# Altium schematic symbol library kalios.SchLib: 578 symbols (part 3 of 4)
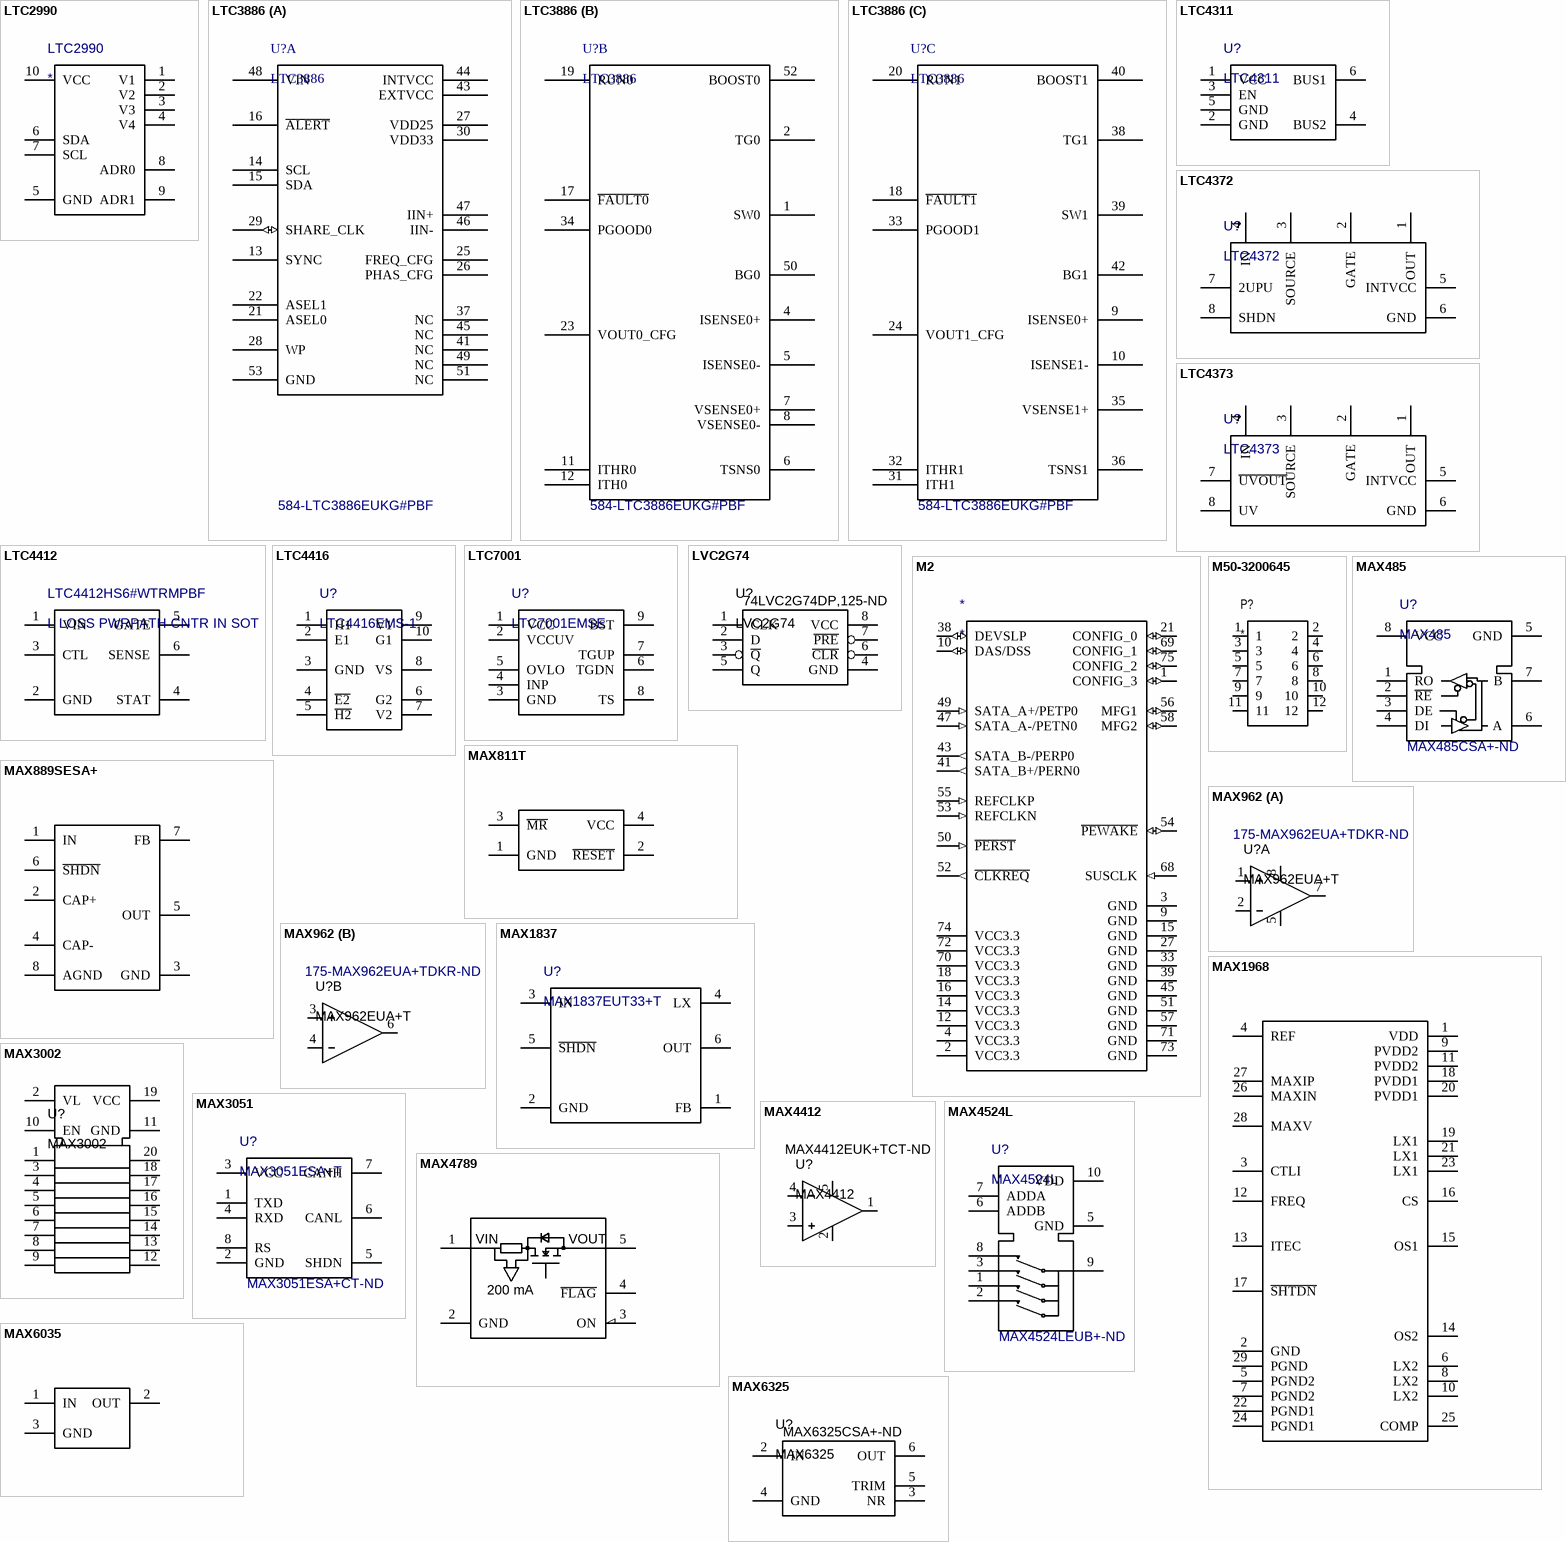
[diagram p26: symbols LTC2990 to MAX6325]

## LTC3886
designator U?  Supplier Part Number 1: 584-LTC3886EUKG#PBF
Supplier 1: Mouser
part A pins: 13 SYNC "External Clock Synchronization Input and  Open-Drain Output Pin. If an external clock is present  at this pin, the switching frequency will be synchronized  to the external clock. If clock master mode is enabled,  this pin will pull low at the switching frequency with a  500ns pulse width to ground. A resistor pull-up to 3.3V  is required in the application.", 14 SCL "Serial Bus Clock Input. Open-drain output,  can hold the output low if clock stretching is enabled.  A pull-up resistor to a voltage between 1.8V to 3.3V is  required in the application.", 15 SDA "Serial Bus Data Input and Output. A pull-up  resistor to a voltage between 1.8V to 3.3V is required in  the application.", 16 ~{ALERT} "Open-Drain Digital Output. Connect the  SMBALERT signal to this pin. A pull-up resistor to 3.3V  is required in the application.", 21 ASEL0 "Serial Bus Address Select  Inputs. Connect optional 1% resistor dividers between  VDD25 and GND to these pins to select the serial bus  interface address. Refer to the Applications Information  section for more detail. Minimize capacitance when the  pin is open to assure accurate detection of the pin state.", 22 ASEL1 "Serial Bus Address Select  Inputs. Connect optional 1% resistor dividers between  VDD25 and GND to these pins to select the serial bus  interface address. Refer to the Applications Information  section for more detail. Minimize capacitance when the  pin is open to assure accurate detection of the pin state.", 25 FREQ_CFG "Frequency Select Pin. Connect a  ±1% resistor divider between the chip VDD25 FREQ_CFG  and GND in order to select switching frequency. If the pin  is left open, the IC will use the value programmed in the  EEPROM. Refer to the Applications Information section  for more detail. Minimize capacitance when the pin is  open to assure accurate detection of the pin state.", 26 PHAS_CFG "Phase Configuration Input. Connect  an optional 1% resistor divider between VDD25 and GND  to this pin to configure the phase of each PWM channel  relative to SYNC. Refer to the Applications Information  section for more detail. Minimize capacitance when the  pin is open to assure accurate detection of the pin state.", 27 VDD25 ": Internally Generated 2.5V Power Supply  Output. Bypass this pin to GND with a low ESR 1μF capacitor. Do not load this pin externally except for the resistor  dividers needed for the LTC3886 resistor con-figuration  pins.", 28 WP "Write Protect Pin Active High. An internal  10µA current source pulls the pin to VDD33. If WP is high,  the PMBus writes are restricted.", 29 SHARE_CLK (io) "Share Clock, Bidirectional OpenDrain Clock Sharing Pin. Nominally 100kHz. Used to synchronize the timing between multiple ADI controllers. Tie  all the SHARE_CLK pins together. All ADI controllers will  synchronize to the fastest clock. A pull-up resistor to 3.3V  is required in the application.", 30 VDD33 "Internally Generated 3.3V Power Supply  Output. Bypass this pin to GND with a low ESR 1μF capacitor. Do not load this pin with external current.", 37 NC, 41 NC, 43 EXTVCC "External power input to an internal LDO  connected to INTVCC. This LDO supplies INTVCC power  bypassing the internal LDO powered from VIN whenever  EXTVCC is higher than 4.7V. See EXTVCC connection in the  Applications Information Section. Do not float or exceed  14V on this pin. Decouple this pin to GND with a minimum  of 4.7μF low ESR tantalum or ceramic capacitor. If the  EXTVCC pin is not used, tie the pin to GND. The EXTVCC  pin may be connected to a higher voltage than the VIN  pin. If the EXTVCC pin is tied to an output of the controller and the external load can pull the output below –0.3V,  a Schottky diode from GND to EXTVCC must be used to  protect the EXTVCC pin.", 44 INTVCC "Internal Regulator 5V Output. The control circuits are powered from this voltage. Decouple this  pin to GND with a minimum of 4.7μF low ESR tantalum  or ceramic capacitor.", 45 NC, 46 IIN- "Negative Input of High Side Current Sense  Amplifier.", 47 IIN+ "Positive Input of High Side Current Sense  Amplifier.", 48 VIN "Main Input Supply. Decouple this pin to GND  with a capacitor (0.1µF to 1µF). For applications where  the main input power is 5V, tie the VIN and INTVCC pins  together. If the input current sense amplifier is not used,  this pin must be shorted to the IIN+ and IIN– pins.", 49 NC, 51 NC, 53 GND "Ground. All small-signal  and compensation components should connect to this  ground, at one point."
part B pins: 1 SW0 "Switch Node Connections to  Inductors. Voltage swings at the pins are from a Schottky  diode (external) voltage drop below ground to VIN.", 2 TG0 "Top Gate Driver Outputs. These are  the outputs of floating drivers with a voltage swing equal  to INTVCC superimposed on the switch node voltages.", 4 ISENSE0+ "Current Sense Comparator  Inputs. The (+) input to the current comparator is normally connected to the DCR sensing network or current  sensing resistor.", 5 ISENSE0- ": Current Sense Comparator  Inputs. The (–) input is connected to the output.", 6 TSNS0 "External Diode Temperature  Sense. Connect to the anode of a diode-connected PNP  transistor in order to sense remote temperature. Directly  connect the cathode using a separate ground return path  to Pin 53 of the LTC3886. A bypass capacitor between  the anode and cathode must be located in close proximity  to the transistor. If external temperature sense elements  are not installed, short pin to ground and set the UT_  FAULT_LIMIT to –275°C and the UT_FAULT_RESPONSE  to ignore.", 7 VSENSE0+ "Positive Output Voltage  Sense Inputs.", 8 VSENSE0- "Channel 0 Negative Output Voltage  Sense Input.", 11 ITHR0 "Loop Compensation Nodes.", 12 ITH0 "Current Control Threshold and  Error Amplifier Compensation Nodes. Each associated  channel’s current comparator tripping threshold increases  with its ITH voltage.", 17 ~{FAULT0} "Digital Programmable  General Purpose Inputs and Outputs. Open-drain output.  A pull-up resistor to a voltage between 1.8V to 3.3V is  required in the application.", 19 RUN0 "Enable Run Input and Output.  Logic high on this pin enables the controller. Open-drain  output holds the pin low until the LTC3886 is out of reset.  This pin should be driven by an open-drain digital output.  A pull-up resistor to a voltage between 1.8V to 3.3V is  required in the application.", 23 VOUT0_CFG "Output Voltage  Select Pins. Connect a ±1% resistor divider between the  chip VDD25, VOUT_CFG and GND in order to select output  voltage. If the pin is left open, the IC will use the value  programmed in the EEPROM. Refer to the Applications  Information section for more detail. Minimize capacitance  when the pin is open to assure accurate detection of the  pin state.", 34 PGOOD0 "Power Good Indicator  Outputs. Open-drain logic output that is pulled to ground  when the output exceeds OV/UV thresholds. The output  is deglitched by an internal 60μs filter. A pull-up resistor  to 3.3V is required in the application.", 50 BG0 ": Bottom Gate Driver Outputs. This  pin drives the gates of the bottom N-channel MOSFET  between GND and INTVCC.", 52 BOOST0 "Boosted Floating Driver  Supplies. The (+) terminal of the bootstrap capacitor connects to this pin. This pin swings from a diode voltage  drop below INTVCC up to VIN + INTVCC."
part C pins: 9 ISENSE0+ "Current Sense Comparator  Inputs. The (+) input to the current comparator is normally connected to the DCR sensing network or current  sensing resistor.", 10 ISENSE1- ": Current Sense Comparator  Inputs. The (–) input is connected to the output.", 18 ~{FAULT1} "Digital Programmable  General Purpose Inputs and Outputs. Open-drain output.  A pull-up resistor to a voltage between 1.8V to 3.3V is  required in the application.", 20 RUN1 "Enable Run Input and Output.  Logic high on this pin enables the controller. Open-drain  output holds the pin low until the LTC3886 is out of reset.  This pin should be driven by an open-drain digital output.  A pull-up resistor to a voltage between 1.8V to 3.3V is  required in the application.", 24 VOUT1_CFG "Output Voltage  Select Pins. Connect a ±1% resistor divider between the  chip VDD25, VOUT_CFG and GND in order to select output  voltage. If the pin is left open, the IC will use the value  programmed in the EEPROM. Refer to the Applications  Information section for more detail. Minimize capacitance  when the pin is open to assure accurate detection of the  pin state.", 31 ITH1 "Current Control Threshold and  Error Amplifier Compensation Nodes. Each associated  channel’s current comparator tripping threshold increases  with its ITH voltage.", 32 ITHR1 "Loop Compensation Nodes.", 33 PGOOD1 "Power Good Indicator  Outputs. Open-drain logic output that is pulled to ground  when the output exceeds OV/UV thresholds. The output  is deglitched by an internal 60μs filter. A pull-up resistor  to 3.3V is required in the application.", 35 VSENSE1+ "Positive Output Voltage  Sense Inputs.", 36 TSNS1 "External Diode Temperature  Sense. Connect to the anode of a diode-connected PNP  transistor in order to sense remote temperature. Directly  connect the cathode using a separate ground return path  to Pin 53 of the LTC3886. A bypass capacitor between  the anode and cathode must be located in close proximity  to the transistor. If external temperature sense elements  are not installed, short pin to ground and set the UT_  FAULT_LIMIT to –275°C and the UT_FAULT_RESPONSE  to ignore.", 38 TG1 "Top Gate Driver Outputs. These are  the outputs of floating drivers with a voltage swing equal  to INTVCC superimposed on the switch node voltages.", 39 SW1 "Switch Node Connections to  Inductors. Voltage swings at the pins are from a Schottky  diode (external) voltage drop below ground to VIN.", 40 BOOST1 "Boosted Floating Driver  Supplies. The (+) terminal of the bootstrap capacitor connects to this pin. This pin swings from a diode voltage  drop below INTVCC up to VIN + INTVCC.", 42 BG1 ": Bottom Gate Driver Outputs. This  pin drives the gates of the bottom N-channel MOSFET  between GND and INTVCC."

## LTC4311
designator U?
The LTC®4311 is a dual I2C active pull-up designed to / enhance data transmission speed and reliability for bus / loading conditions well beyond the 400pF I2C specifi cation / limit. The LTC4311 operates at supply voltages from 1.6V / to 5.5V and is also compatible with SMBus.
footprint SC70-6 (SOT363, 6-Leads, Body 2x1.3mm, Pitch 0.65mm, Lead Span 2.1mm, IPC Low Density)
pins: 1 VCC, 2 GND, 3 EN, 4 BUS2, 5 GND, 6 BUS1

## LTC4372
designator U?
LOW ICC IDEAL DIODE CONTROLLER W; Value: LTC4372
footprint MSOP8 (TSOP, 8-Leads, Body 3.00x3.00mm, Pitch 0.65mm, IPC Medium Density)
pins: 1 OUT, 2 GATE, 3 SOURCE, 4 IN, 5 INTVCC, 6 GND, 7 2UPU, 8 SHDN

## LTC4373
designator U?
LOW ICC IDEAL DIODE CONTROLLER W; Value: LTC4373; Supplier 1: Digi-Key; Supplier Part Number 1: 161-LTC4373IMS8#PBF-ND
footprint MSOP8 (TSOP, 8-Leads, Body 3.00x3.00mm, Pitch 0.65mm, IPC Medium Density)
pins: 1 OUT, 2 GATE, 3 SOURCE, 4 IN, 5 INTVCC, 6 GND, 7 ~{UVOUT}, 8 UV

## LTC4412
designator LTC4412HS6#WTRMPBF, comment L LOSS PWRPATH CNTR IN SOT
OR Controller N+1 ORing Controller P-Channel 2:1 TSOT-23-6
footprint SOT23-6 (IC Package SOT23-6- Body 2.9x1.6x1.45mm)
pins: 1 VIN, 2 GND, 3 CTL, 4 STAT, 5 GATE, 6 SENSE

## LTC4416
designator U?, comment LTC4416EMS-1
IC OR CTRLR SRC SELECT 10MSOP; Supplier 1: Digi-Key; Value: LTC4416EMS-1; Supplier Part Number 1: 505-LTC4416EMS-1#PBF-ND
footprint MSOP10 (TSSOP, 10-Leads, Body 3.00x3.00mm, Pitch 0.50mm, Thermal Pad 1.68.2x1.68.2mm, IPC Medium Density)
pins: 1 H1, 2 E1, 3 GND, 4 ~{E2}, 5 ~{H2}, 6 G2, 7 V2, 8 VS, 9 V1, 10 G1

## LTC7001
designator U?, comment LTC7001EMSE
IC GATE DRVR HIGH-SIDE 10MSOP; Value: LTC7001EMSE; Supplier 1: Digi-Key; Supplier Part Number 1: 505-LTC7001EMSE#TRPBFCT-ND
footprint MSOP10 (TSSOP, 10-Leads, Body 3.00x3.00mm, Pitch 0.50mm, Thermal Pad 1.68.2x1.68.2mm, IPC Medium Density)
pins: 1 VCC, 2 VCCUV, 3 GND, 4 INP, 5 OVLO, 6 TGDN, 7 TGUP, 8 TS, 9 BST

## LVC2G74
designator U?  Supplier Part Number 1: 74LVC2G74DP,125-ND
Supplier 1: Digi-Key
footprint TSSOP8 (Shrink Small Outline; 8 Leads; Body Width 4.4 mm; Pitch 0.65 mm)
pins: 1 CLK, 2 D, 3 ~{Q}, 4 GND, 5 Q, 6 ~{CLR}, 7 ~{PRE}, 8 VCC

## M2
designator *
pins: 1 CONFIG_3 (io), 2 VCC3.3 (power), 3 GND (power), 4 VCC3.3 (power), 9 GND (power), 10 DAS/DSS (io), 12 VCC3.3 (power), 14 VCC3.3 (power), 15 GND (power), 16 VCC3.3 (power), 18 VCC3.3 (power), 21 CONFIG_0 (io), 27 GND (power), 33 GND (power), 38 DEVSLP (io), 39 GND (power), 41 SATA_B+/PERN0 (out), 43 SATA_B-/PERP0 (out), 45 GND (power), 47 SATA_A-/PETN0 (in), 49 SATA_A+/PETP0 (in), 50 ~{PERST} (in), 51 GND (power), 52 ~{CLKREQ} (out), 53 REFCLKN (in), 54 ~{PEWAKE} (io), 55 REFCLKP (in), 56 MFG1 (io), 57 GND (power), 58 MFG2 (io), 68 SUSCLK (in), 69 CONFIG_1 (io), 70 VCC3.3 (power), 71 GND (power), 72 VCC3.3 (power), 73 GND (power), 74 VCC3.3 (power), 75 CONFIG_2 (io)

## M50-3200645
designator P?
M50-3200645
footprint M50-3200645
pins: 1, 2, 3, 4, 5, 6, 7, 8, 9, 10, 11, 12

## MAX485
designator U?  Supplier Part Number 1: MAX485CSA+-ND
IC TRANSCEIVER HALF 1/1 8SOIC; Supplier 1: Digi-Key
footprint SOIC8 (8-Pin Small Outline Integrated Circuit 1.27 mm Pitch, IPC Low Density)
pins: 1 RO, 2 ~{RE}, 3 DE, 4 DI, 5 GND, 6 A, 7 B, 8 VCC

## MAX811T
designator U?  Supplier Part Number 2: MAX811TEUS+TCT-ND
IC MPU V-MONITOR 2.63V SOT143-4; Supplier 1: Digi-Key; Supplier 2: Digi-Key
footprint SOT143-4 (Footprint not found)
pins: 1 GND, 2 ~{RESET}, 3 ~{MR}, 4 VCC

## MAX889SESA+
designator U?, comment MAX889 SESA+
POWER SUPPLY INVERTER; Supplier 1: Digi-Key
footprint SOIC8 (8-Pin Small Outline Integrated Circuit 1.27 mm Pitch, IPC Low Density)
pins: 1 IN, 2 CAP+, 3 GND, 4 CAP-, 5 OUT, 6 ~{SHDN}, 7 FB, 8 AGND

## MAX962
designator U?, comment MAX962EUA+T  Supplier Part Number 1: 175-MAX962EUA+TDKR-ND
Comparator General Purpose CMOS, TTL 8-uMAX/uSOP; Supplier 1: Digi-Key
footprint MSOP8 (TSOP, 8-Leads, Body 3.00x3.00mm, Pitch 0.65mm, IPC Medium Density)
part A pins: 1 IN+, 2 IN-, 5 V-, 7 OUT, 8 V+
part B pins: 3 IN+, 4 IN-, 6 OUT

## MAX1837
designator U?, comment MAX1837EUT33+T
IC REG BUCK 3.3V 250MA SOT23-6
footprint SOT23-6 (SOT23, 6-Leads, Body 3.1x3.2mm (max), Pitch 0.95mm, IPC Medium Density)
pins: 1 FB, 2 GND, 3 IN, 4 LX, 5 ~{SHDN}, 6 OUT

## MAX1968
designator U?, comment MAX1968 EUI
IC DRVR POWER 28-TSSOP; Supplier 1: Digi-Key
footprint TSSOP28 (Footprint not found)
pins: 1 VDD, 2 GND, 3 CTLI, 4 REF, 5 PGND2, 6 LX2, 7 PGND2, 8 LX2, 9 PVDD2, 10 LX2, 11 PVDD2, 12 FREQ, 13 ITEC, 14 OS2, 15 OS1, 16 CS, 17 ~{SHTDN}, 18 PVDD1, 19 LX1, 20 PVDD1, 21 LX1, 22 PGND1, 23 LX1, 24 PGND1, 25 COMP, 26 MAXIN, 27 MAXIP, 28 MAXV, 29 PGND

## MAX3002
designator U?
IC TRANSLATOR LEVEL 8CH 20-TSSOP
footprint TSSOP20 (TSOP, 20-Leads, Body 6.6x4.5mm (max), Pitch 0.65mm, IPC Low Density)
pins: 1, 2 VL, 3, 4, 5, 6, 7, 8, 9, 10 EN, 11 GND, 12, 13, 14, 15, 16, 17, 18, 19 VCC, 20

## MAX3051
designator U?, comment MAX3051ESA+T  Supplier Part Number 1: MAX3051ESA+CT-ND
1/1 Transceiver Half CANbus 8-SOIC; Supplier 1: Digi-Key
footprint SOIC8 (8-Pin Small Outline Integrated Circuit 1.27 mm Pitch, IPC Low Density)
pins: 1 TXD, 2 GND, 3 VCC, 4 RXD, 5 SHDN, 6 CANL, 7 CANH, 8 RS

## MAX4412
designator U?  Supplier Part Number 1: MAX4412EUK+TCT-ND
Supplier 1: Digi-Key
footprint SOT23-5 (SOT23, 5-Leads, Body 3.0x2.6mm (max), Pitch 0.95mm, IPC Low Density)
pins: 1 OUT, 2 V-, 3 IN+, 4 IN-, 5 V+

## MAX4524L
designator U?  Supplier Part Number 1: MAX4524LEUB+-ND
1 Circuit IC Switch 4:1 80Ohm 10-uMAX/uSOP / IC MUX/SW ANLG CMOS LV 10UMAX; Supplier 1: Digi-Key
footprint MSOP10 (TSSOP, 10-Leads, Body 3.00x3.00mm, Pitch 0.50mm, Thermal Pad 1.68.2x1.68.2mm, IPC Medium Density)
pins: 1 NO2, 2 NO3, 3 NO1, 5 GND, 6 ADDB , 7 ADDA, 8 NO0, 9 COM, 10 VDD
1 alternate drawing of the same symbol

## MAX4789
designator U?, comment MAX4789EUK+T
Current Limiting Regulator 200mA SOT-23-5; Supplier 1: Digi-Key
footprint SOIC8 (8-Pin Small Outline Integrated Circuit 1.27 mm Pitch, IPC Low Density)
footprint SOT23-5 (SOT23, 5-Leads, Body 3.0x2.6mm (max), Pitch 0.95mm, IPC Low Density)
pins: 1 VIN, 2 GND, 3 ON, 4 ~{FLAG}, 5 VOUT
text: 200 mA

## MAX6035
designator D?, comment LTST-C170CKT
Led 0805 Red; Supplier 1: Digi-Key
footprint SOT23-3 (SOT23, 3-Leads, Body 3.0x2.6mm (max), Pitch 0.95mm, IPC Low Density)
pins: 1 IN, 2 OUT, 3 GND

## MAX6325
designator U?  Supplier Part Number 1: MAX6325CSA+-ND
Supplier 1: Digi-Key
footprint SOIC8 (8-Pin Small Outline Integrated Circuit 1.27 mm Pitch, IPC Low Density)
pins: 2 IN, 3 NR, 4 GND, 5 TRIM, 6 OUT

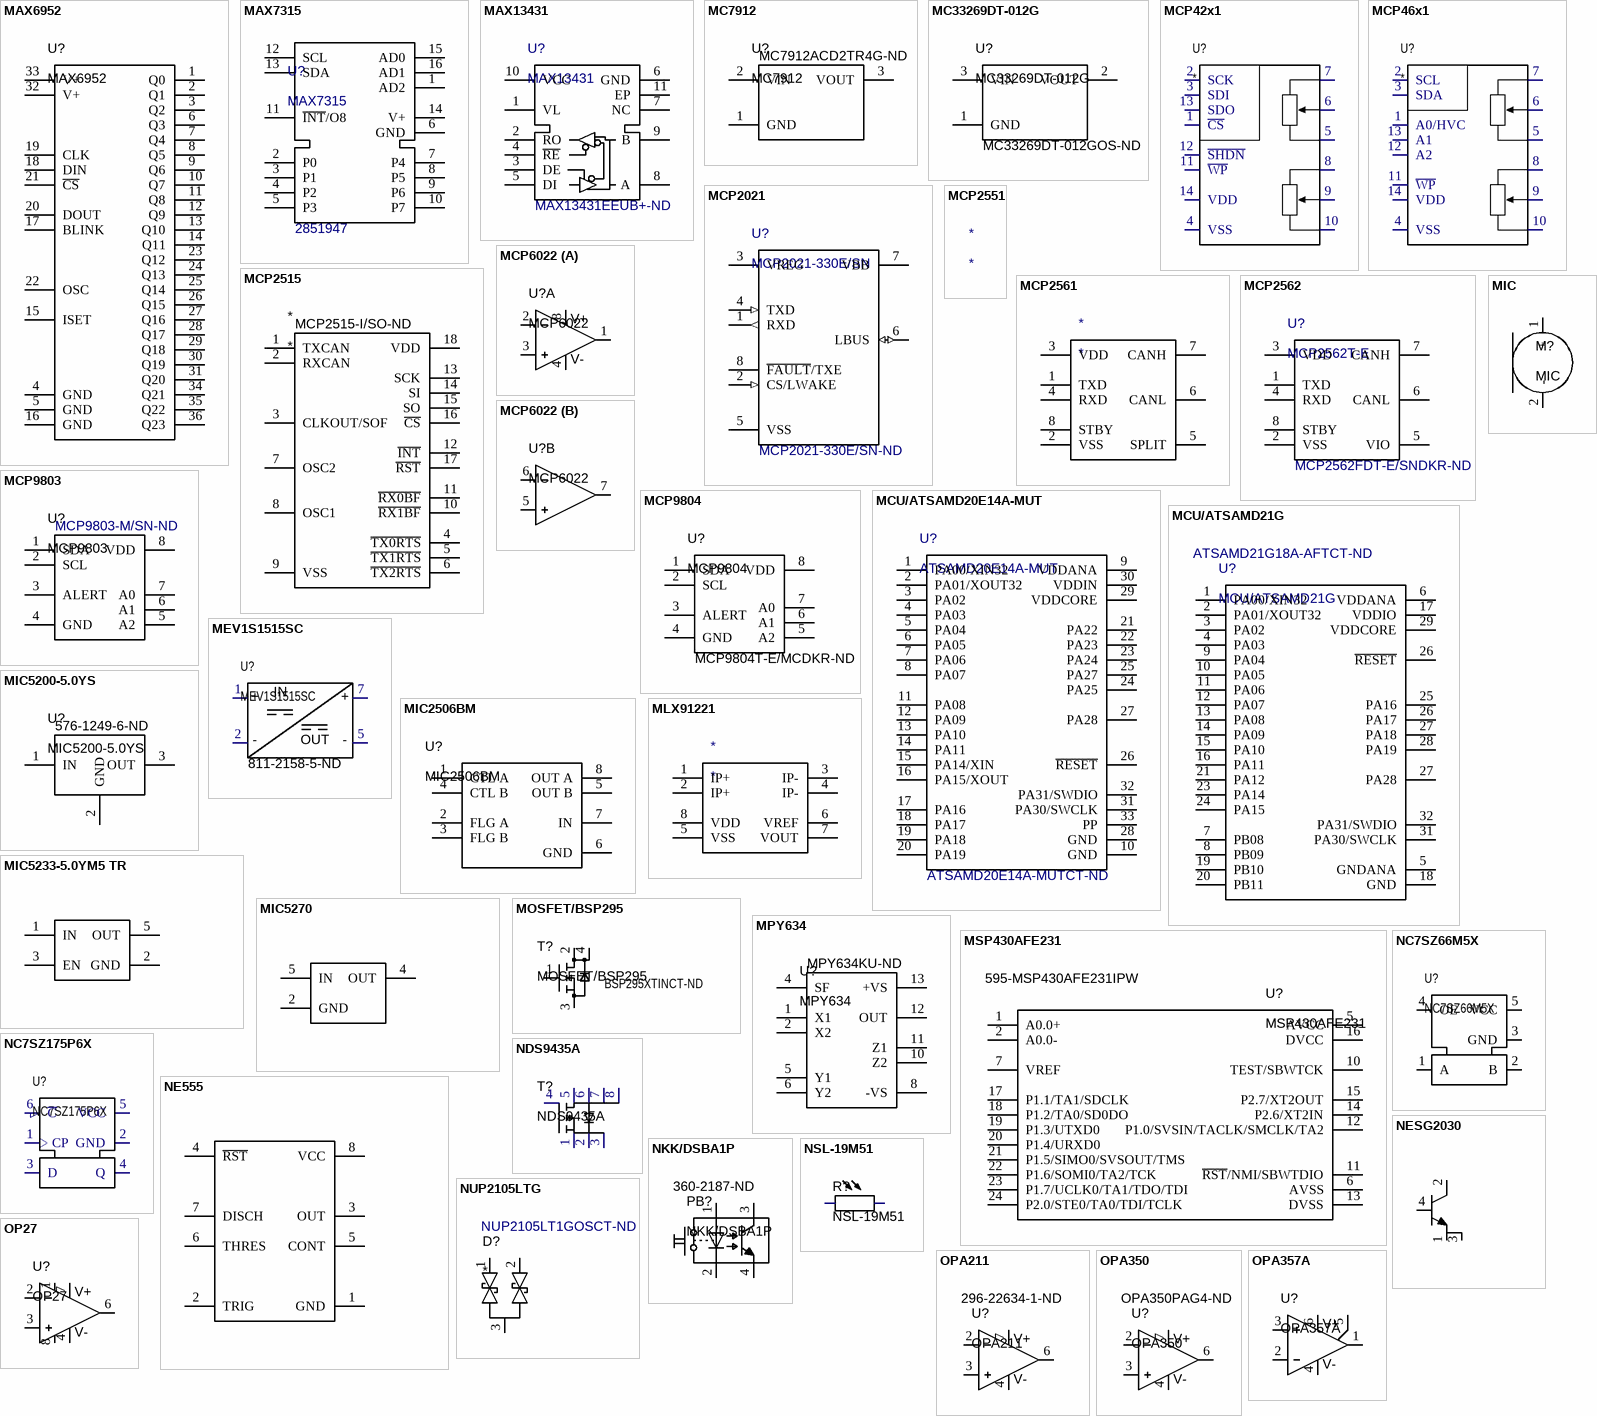
[diagram p14: symbols MAX6952 to OPA357A]

## MAX6952
designator U?
4-Digit 5 ? 7 Matrix LED Display Driver
pins: 1 Q0, 2 Q1, 3 Q2, 4 GND, 5 GND, 6 Q3, 7 Q4, 8 Q5, 9 Q6, 10 Q7, 11 Q8, 12 Q9, 13 Q10, 14 Q11, 15 ISET, 16 GND, 17 BLINK, 18 DIN, 19 CLK, 20 DOUT, 21 ~{CS}, 22 OSC, 23 Q12, 24 Q13, 25 Q14, 26 Q15, 27 Q16, 28 Q17, 29 Q18, 30 Q19, 31 Q20, 32 V+, 33 V+, 34 Q21, 35 Q22, 36 Q23

## MAX7315
designator U?  Supplier Part Number 1: 2851947
IC I/O EXPANDER I2C 8B 16TSSOP; Supplier 1: Future Electronics
footprint SOP65P640X110-16N
pins: 1 AD2, 2 P0 (oc), 3 P1 (oc), 4 P2 (oc), 5 P3 (oc), 6 GND (power), 7 P4 (oc), 8 P5 (oc), 9 P6 (oc), 10 P7 (oc), 11 ~{INT}/O8, 12 SCL, 13 SDA, 14 V+ (power), 15 AD0, 16 AD1

## MAX13431
designator U?  Supplier Part Number 1: MAX13431EEUB+-ND
1/1 Transceiver Half RS422, RS485 10-TDFN (3x3); Supplier 1: Digi-Key
footprint DFN10_3x3MC_MCH-M
pins: 1 VL, 2 RO, 3 DE, 4 ~{RE}, 5 DI, 6 GND, 7 NC, 8 A, 9 B, 10 VCC, 11 EP

## MC7912
designator U?  Supplier Part Number 1: MC7912ACD2TR4G-ND
Supplier 1: Digi-Key
footprint D2PAK-3 HEATSINK (D2-PAK, 3-Pads, Body 9.6x9.6mm (max), IPC Medium Density)
pins: 1 GND, 2 VIN, 3 VOUT

## MC33269DT-012G
designator U?  Supplier Part Number 1: MC33269DT-012GOS-ND
IC REG LDO 12V 0.8A DPAK; Supplier 1: Digi-Key
footprint DPAK (D-PAK, 3-Pads, Body 6.20x6.72mm (max), IPC Medium Density)
pins: 1 GND, 2 VOUT, 3 VIN

## MCP42x1
designator U?
Value: *
pins: 1 ~{CS}, 2 SCK, 3 SDI, 4 VSS, 5 B1, 6 W1, 7 A1, 8 A2, 9 W2, 10 B2, 11 ~{WP}, 12 ~{SHDN}, 13 SDO, 14 VDD

## MCP46x1
designator U?
7/8-Bit Dual I2C Digital POT with Non-Volatile Memory; Value: *
pins: 1 A0/HVC, 2 SCL, 3 SDA, 4 VSS, 5 B1, 6 W1, 7 A1, 8 A2, 9 W2, 10 B2, 11 ~{WP}, 12 A2, 13 A1, 14 VDD

## MCP2021
designator U?, comment MCP2021-330E/SN  Supplier Part Number 1: MCP2021-330E/SN-ND
Supplier 1: Digi-Key
footprint SOIC8 (8-Pin Small Outline Integrated Circuit 1.27 mm Pitch, IPC Low Density)
pins: 1 RXD (out), 2 CS/LWAKE (in), 3 VREG (power), 4 TXD (in), 5 VSS, 6 LBUS (io), 7 VBB (power), 8 ~{FAULT}/TXE

## MCP2515
designator *  Supplier Part Number 1: MCP2515-I/SO-ND
Supplier 1: Digi-Key
pins: 1 TXCAN, 2 RXCAN, 3 CLKOUT/SOF, 4 ~{TX0RTS}, 5 ~{TX1RTS}, 6 ~{TX2RTS}, 7 OSC2, 8 OSC1, 9 VSS, 10 ~{RX1BF}, 11 ~{RX0BF}, 12 ~{INT}, 13 SCK, 14 SI, 15 SO, 16 ~{CS}, 17 ~{RST}, 18 VDD

## MCP2551
designator *

## MCP2561
designator *
pins: 1 TXD, 2 VSS, 3 VDD, 4 RXD, 5 SPLIT, 6 CANL, 7 CANH, 8 STBY

## MCP2562
designator U?, comment MCP2562T-E  Supplier Part Number 1: MCP2562FDT-E/SNDKR-ND
IC TRANSCEIVER HALF 1/1 8SOIC; Supplier 1: Digi-Key
footprint SOIC8 (8-Pin Small Outline Integrated Circuit 1.27 mm Pitch, IPC Low Density)
pins: 1 TXD, 2 VSS, 3 VDD, 4 RXD, 5 VIO, 6 CANL, 7 CANH, 8 STBY

## MCP6022
designator U?
Rail-to-Rail Input/Output, 10 MHz Op Amps
part A pins: 1 OUT, 2 IN-, 3 IN+, 4 V-, 8 V+
part B pins: 5 IN+, 6 IN-, 7 OUT

## MCP9803
designator U?  Supplier Part Number 1: MCP9803-M/SN-ND
Temperature sensor I2c; Supplier 1: Digi-Key
footprint DFN2x3 8-Pin
pins: 1 SDA, 2 SCL, 3 ALERT, 4 GND, 5 A2, 6 A1, 7 A0, 8 VDD

## MCP9804
designator U?  Supplier Part Number 1: MCP9804T-E/MCDKR-ND
Temperature sensor I2c; Supplier 1: Digi-Key
footprint DFN2x3 8-Pin
pins: 1 SDA, 2 SCL, 3 ALERT, 4 GND, 5 A2, 6 A1, 7 A0, 8 VDD

## MCU/ATSAMD20E14A-MUT
designator U?, comment ATSAMD20E14A-MUT  Supplier Part Number 1: ATSAMD20E14A-MUTCT-ND
ARM® Cortex®-M0+ SAM D20E Microcontroller IC 32-Bit 48MHz 16KB (16K x 8) FLASH 32-QFN (5x5); Supplier 1: Digi-Key
footprint QFN32_5X5MC_MCH
pins: 1 PA00/XIN32, 2 PA01/XOUT32, 3 PA02, 4 PA03, 5 PA04, 6 PA05, 7 PA06, 8 PA07, 9 VDDANA, 10 GND, 11 PA08, 12 PA09, 13 PA10, 14 PA11, 15 PA14/XIN, 16 PA15/XOUT, 17 PA16, 18 PA17, 19 PA18, 20 PA19, 21 PA22, 22 PA23, 23 PA24, 24 PA25, 25 PA27, 26 ~{RESET}, 27 PA28, 28 GND, 29 VDDCORE, 30 VDDIN, 31 PA30/SWCLK, 32 PA31/SWDIO, 33 PP

## MCU/ATSAMD21G
designator U?  Supplier Part Number 1: ATSAMD21G18A-AFTCT-ND
IC MCU 32BIT 256KB FLASH 48TQFP; Supplier 1: Digi-Key
pins: 1 PA00/XIN32, 2 PA01/XOUT32, 3 PA02, 4 PA03, 5 GNDANA, 6 VDDANA, 7 PB08, 8 PB09, 9 PA04, 10 PA05, 11 PA06, 12 PA07, 13 PA08, 14 PA09, 15 PA10, 16 PA11, 17 VDDIO, 18 GND, 19 PB10, 20 PB11, 21 PA12, 23 PA14, 24 PA15, 25 PA16, 26 PA17, 26 ~{RESET}, 27 PA18, 27 PA28, 28 PA19, 29 VDDCORE, 31 PA30/SWCLK, 32 PA31/SWDIO

## MEV1S1515SC
designator U?  Supplier Part Number 1: 811-2158-5-ND
3kVDC Isolated 1W Single Output DC/DC Converters; Supplier 1: Digi-Key; Supplier 2: Farnell
footprint MEV1/SIP
pins: 1 +VIN, 2 -VIN, 5 -VOUT, 7 +VOUT
text: IN; +; -; OUT

## MIC
designator M?
pins: 1 +, 2 -

## MIC2506BM
designator U?
pins: 1 CTL A, 2 FLG A, 3 FLG B, 4 CTL B, 5 OUT B, 6 GND, 7 IN, 8 OUT A

## MIC5200-5.0YS
designator U?  Supplier Part Number 1: 576-1249-6-ND
Supplier 1: Digi-Key; Supplier 2: Farnell; Supplier Part Number 2: 1311413
footprint SOT-223 (SOT-223/SC-73; 4 Leads; Body 6.7 x 7.3 mm, inc. leads (LxW max))
pins: 1 IN, 2 GND, 3 OUT

## MIC5233-5.0YM5 TR
designator U?  Supplier Part Number 2: 576-2779-2-ND
IC REG LDO 5V .1A SOT23-5; Supplier 1: Digi-Key; Supplier 2: Digi-Key
footprint SOT23-5 (SOT23, 5-Leads, Body 3.0x2.6mm (max), Pitch 0.95mm, IPC Low Density)
pins: 1 IN, 2 GND, 3 EN, 5 OUT

## MIC5270
designator U?  Supplier Part Number 2: 576-1294-2-ND
IC REG LDO -5V .1A SOT23-5; Supplier 1: Digi-Key; Supplier 2: Digi-Key
footprint SOT23-5 (SOT23, 5-Leads, Body 3.0x2.6mm (max), Pitch 0.95mm, IPC Low Density)
pins: 2 GND, 4 OUT, 5 IN

## MLX91221
designator *
pins: 1 IP+, 2 IP+, 3 IP-, 4 IP-, 5 VSS, 6 VREF, 7 VOUT, 8 VDD

## MOSFET/BSP295
designator T?  Supplier Part Number 1: BSP295XTINCT-ND
N.channel TrenchMOS FET  Logic level; Supplier 1: Digi-Key
footprint SOT223-4 (SOT223, 4-Leads, Body 6.7x7.3mm (max), Pitch 2.30mm, IPC Medium Density)
pins: 1 VCC, 2 D, 3 S, 4 D

## MPY634
designator U?  Supplier Part Number 1: MPY634KU-ND
Supplier 1: Digi-Key
footprint SOIC16 (SOIC, 16-Leads, Body 10.0x4.0mm (max), Pitch 1.27mm, IPC Low Density)
pins: 1 X1, 2 X2, 4 SF, 5 Y1, 6 Y2, 8 -VS, 10 Z2, 11 Z1, 12 OUT, 13 +VS

## MSP430AFE231
designator U?  Supplier Part Number 1: 595-MSP430AFE231IPW
Supplier 1: Mouser
pins: 1 A0.0+, 2 A0.0-, 5 AVCC, 6 AVSS, 7 VREF, 10 TEST/SBWTCK, 11 ~{RST}/NMI/SBWTDIO, 12 P1.0/SVSIN/TACLK/SMCLK/TA2, 13 DVSS, 14 P2.6/XT2IN, 15 P2.7/XT2OUT, 16 DVCC, 17 P1.1/TA1/SDCLK, 18 P1.2/TA0/SD0DO, 19 P1.3/UTXD0, 20 P1.4/URXD0, 21 P1.5/SIMO0/SVSOUT/TMS, 22 P1.6/SOMI0/TA2/TCK, 23 P1.7/UCLK0/TA1/TDO/TDI, 24 P2.0/STE0/TA0/TDI/TCLK

## NC7SZ66M5X
designator U?
D-Type Flip-Flop with Asychronous Clear
footprint SC70-6 (SOT363, 6-Leads, Body 2x1.3mm, Pitch 0.65mm, Lead Span 2.1mm, IPC Low Density)
pins: 1 A, 2 B, 3 GND, 4 OE, 5 VCC
1 alternate drawing of the same symbol

## NC7SZ175P6X
designator U?
D-Type Flip-Flop with Asychronous Clear; Supplier 1: Digi-Key; Supplier 2: Farnell; Supplier Part Number 1: NC7SZ175P6XDKR-ND; Supplier Part Number 2: 9876456
footprint SC70-6 (SOT363, 6-Leads, Body 2x1.3mm, Pitch 0.65mm, Lead Span 2.1mm, IPC Low Density)
pins: 1 CP, 2 GND, 3 D, 4 Q, 5 VCC, 6 ~{C}
1 alternate drawing of the same symbol

## NDS9435A
designator T?
MOSFET P NDS9435A
footprint SOIC8 (8-Pin Small Outline Integrated Circuit 1.27 mm Pitch, IPC Low Density)
pins: 1 S, 2 S, 3 S, 4 G, 5 D, 6 D, 7 D, 8 D

## NE555
designator U?, comment IC OSC MONO TIMING 8-SOIC
Led 0805 Red; Supplier 1: Digi-Key
footprint SOIC8 (8-Pin Small Outline Integrated Circuit 1.27 mm Pitch, IPC Low Density)
pins: 1 GND, 2 TRIG, 3 OUT, 4 ~{RST}, 5 CONT, 6 THRES, 7 DISCH, 8 VCC

## NESG2030
designator T?
TRANS NPN 2GHZ SOT-343
footprint SOT343F (SOT23, 5-Leads, Body 3.0x2.6mm (max), Pitch 0.95mm, IPC Low Density)
pins: 1 E, 2 C, 3 E, 4 B

## NKK/DSBA1P
designator PB?  Supplier Part Number 1: 360-2187-ND
Supplier 1: Digi-Key
footprint NKK/DSBA1P (Footprint not found)
pins: 1, 2, 3 C, 4 E

## NSL-19M51
designator R?
SILONEX; Supplier 1: Farnell; Supplier Part Number 1: 3168335
footprint SILONEX NSL19M51
pins: 1, 2

## NUP2105LTG
designator D?  Supplier Part Number 1: NUP2105LT1GOSCT-ND
Supplier 1: Digi-Key
footprint SOT23-3 (SOT23, 3-Leads, Body 3.0x2.6mm (max), Pitch 0.95mm, IPC Low Density)
pins: 1, 2 21, 3

## OP27
designator U?
Low Noise, Precision  Operational Amplifier; Supplier 1: Digi-Key; Supplier Part Number 1: OP275GSZ-REEL7DKR-ND
footprint SOIC8 (8-Pin Small Outline Integrated Circuit 1.27 mm Pitch, IPC Low Density)
pins: 1 VOS TRIM, 2 IN-, 3 IN+, 4 V-, 6 OUT, 7 V+, 8 VOS TRIM

## OPA211
designator U?  Supplier Part Number 1: 296-22634-1-ND
4.5ns Rail-to-Rail, High-Speed Comparator; Supplier 1: Digi-Key
footprint SOIC8 (8-Pin Small Outline Integrated Circuit 1.27 mm Pitch, IPC Low Density)
pins: 2 IN-, 3 IN+, 4 V-, 6 OUT, 7 V+

## OPA350
designator U?  Supplier Part Number 1: OPA350PAG4-ND
IC OPAMP GP R-R 38MHZ SGL 8DIP; Supplier 1: Digi-Key
footprint DIP8 (Footprint not found)
pins: 2 IN-, 3 IN+, 4 V-, 6 OUT, 7 V+

## OPA357A
designator U?
Voltage Feedback Amplifier 1 Circuit Rail-to-Rail SOT-23-6; SR: 150 V/us; Supplier 1: Digi-Key; Parameter 1: *; Supplier Part Number 1: 296-13009-1-ND
footprint SOT23-6 (SOT23, 6-Leads, Body 3.1x3.2mm (max), Pitch 0.95mm, IPC Medium Density)
pins: 1 OUT, 2 IN-, 3 IN+, 4 V-, 5 EN, 6 V+
1 alternate drawing of the same symbol

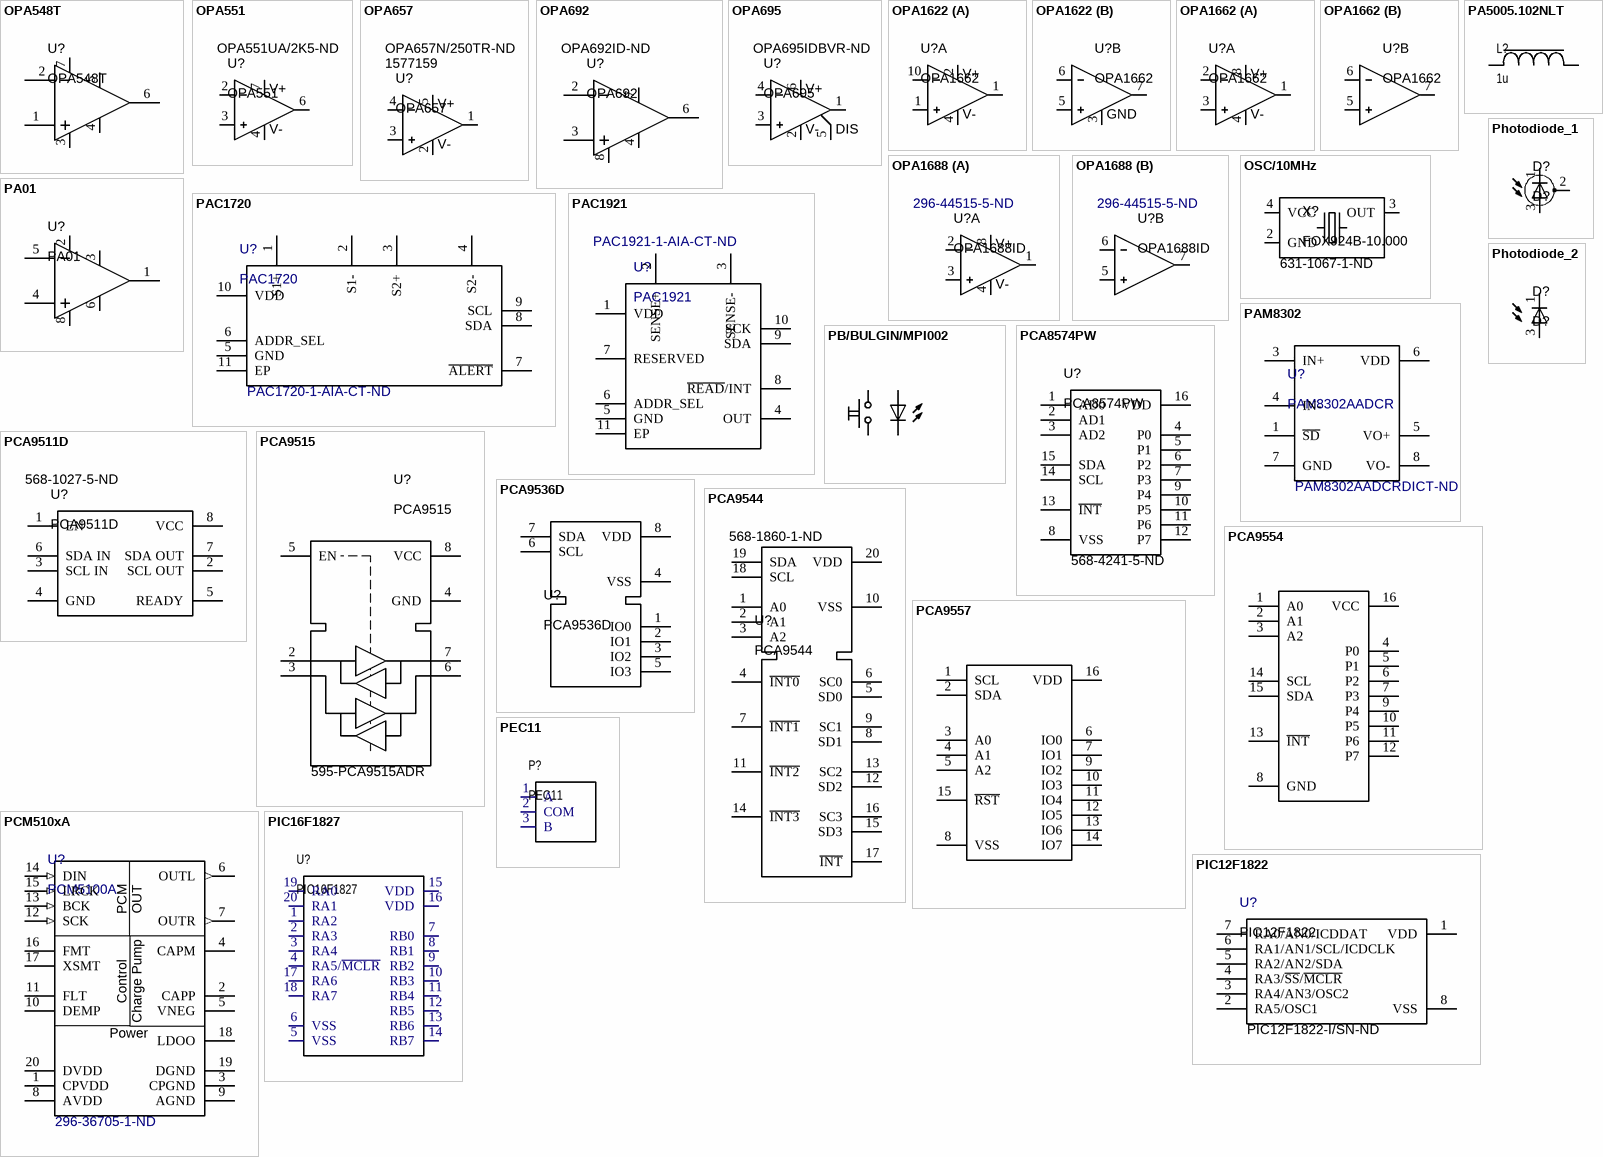
[diagram p15: symbols OPA548T to PIC16F1827]

## OPA548T
designator U?
pins: 1 IN+, 2 IN-, 3 Ilim, 4 V-, 5 V+, 6 OUT, 7 E/S

## OPA551
designator U?  Supplier Part Number 1: OPA551UA/2K5-ND
4.5ns Rail-to-Rail, High-Speed Comparator; Supplier 1: Digi-Key
footprint SOIC8 (8-Pin Small Outline Integrated Circuit 1.27 mm Pitch, IPC Low Density)
pins: 2 IN-, 3 IN+, 4 V-, 6 OUT, 7 V+

## OPA657
designator U?  Supplier Part Number 1: 1577159  Supplier Part Number 2: OPA657N/250TR-ND
Single low-power operational amplifier; Supplier 1: Farnell; Supplier 2: Digi-Key
footprint DBV005 (SOT-23/SC-74A; 5 Leads; Body 3 x 3 mm, inc. leads (LxW max))
pins: 1 OUT, 2 V-, 3 IN+, 4 IN-, 5 V+
1 alternate drawing of the same symbol

## OPA692
designator U?  Supplier Part Number 1: OPA692ID-ND
Wideband Fixed Gain Video BUFFER AMPLIFIER With Disable; Supplier 1: Digi-Key
footprint SOIC8 (8-Pin Small Outline Integrated Circuit 1.27 mm Pitch, IPC Low Density)
pins: 2 IN-, 3 IN+, 4 V-, 6 OUT, 7 V+, 8 ~{DI}S

## OPA695
designator U?  Supplier Part Number 1: OPA695IDBVR-ND
Single low-power operational amplifier; Supplier 1: Digi-Key
footprint SOT23-6 (SOT23, 6-Leads, Body 3.1x3.2mm (max), Pitch 0.95mm, IPC Medium Density)
pins: 1 OUT, 2 V-, 3 IN+, 4 IN-, 5 DIS, 6 V+
1 alternate drawing of the same symbol

## OPA1622
designator U?, comment OPA1662
Dual operational amplifier
part A pins: 1 IN+, 1 OUT, 2 EN, 4 GND, 10 IN-
part B pins: 3 GND, 5 IN+, 6 IN-, 7 OUT
part A text: V+; V-

## OPA1662
designator U?
Dual operational amplifier
footprint SOIC8 (8-Pin Small Outline Integrated Circuit 1.27 mm Pitch, IPC Low Density)
part A pins: 1 OUT, 2 IN-, 3 IN+, 4 V-, 8 V+
part B pins: 5 IN+, 6 IN-, 7 OUT

## OPA1688
designator U?, comment OPA1688ID  Supplier Part Number 1: 296-44515-5-ND
Dual operational amplifier; Supplier 1: Digi-Key
footprint SOIC8 (8-Pin Small Outline Integrated Circuit 1.27 mm Pitch, IPC Low Density)
part A pins: 1 OUT, 2 IN-, 3 IN+, 4 V-, 8 V+
part B pins: 5 IN+, 6 IN-, 7 OUT

## OSC/10MHz
designator X?, comment FOX924B-10.000  Supplier Part Number 1: 631-1067-1-ND
OSCILLATOR TCXO 10.0MHZ 3.3V SMD; Supplier 1: Digi-Key
footprint OSC/FOX924B
pins: 2 GND, 3 OUT, 4 VCC

## PA01
designator U?
Apex Power Operational Amplifier PA01
pins: 1 OUT, 2 CL+, 3 V+, 4 IN+, 5 IN-, 6 V-, 8 CL-

## PA5005.102NLT
designator L?, comment 1u
1 µH Shielded Molded Inductor 20 A 4.52mOhm Max Nonstandard; Isat: 23A; Value: 1u; Supplier 1: Digi-Key; Supplier Part Number 1: 553-4098-1-ND
pins: 1, 2

## PAC1720
designator U?  Supplier Part Number 1: PAC1720-1-AIA-CT-ND
Stromüberwachung Regler Hohe Seite  10-DFN (3x3); Supplier 1: Digi-Key
footprint DFN10_3x3MC_MCH-M
pins: 1 S1+, 2 S1-, 3 S2+, 4 S2-, 5 GND, 6 ADDR_SEL, 7 ~{ALERT}, 8 SDA, 9 SCL, 10 VDD, 11 EP

## PAC1921
designator U?  Supplier Part Number 1: PAC1921-1-AIA-CT-ND
Supplier 1: Digi-Key
footprint DFN10_3x3MC_MCH-M
pins: 1 VDD, 2 SENSE+, 3 SENSE-, 4 OUT, 5 GND, 6 ADDR_SEL, 7 RESERVED, 8 ~{READ}/INT, 9 SDA, 10 SCK, 11 EP

## PAM8302
designator U?, comment PAM8302AADCR  Supplier Part Number 1: PAM8302AADCRDICT-ND
IC AMP CLASS D MONO 2.5W 8SOP; Supplier 1: Digi-Key
footprint SOIC8 (8-Pin Small Outline Integrated Circuit 1.27 mm Pitch, IPC Low Density)
pins: 1 ~{SD}, 3 IN+, 4 IN-, 5 VO+, 6 VDD, 7 GND, 8 VO-

## PB/BULGIN/MPI002
designator PB?, comment PI002
Supplier 1: Digi-Key
footprint PB/BULGIN/MPI002
pins: 1, 2, 3, 4

## PCA8574PW
designator U?  Supplier Part Number 1: 568-4241-5-ND
Supplier 1: Digi-Key
footprint PW016 (Shrink Small Outline; 16 Leads; Body Width 4.4 mm; Pitch 0.65 mm)
pins: 1 AD0, 2 AD1, 3 AD2, 4 P0, 5 P1, 6 P2, 7 P3, 8 VSS, 9 P4, 10 P5, 11 P6, 12 P7, 13 ~{INT}, 14 SCL, 15 SDA, 16 VDD

## PCA9511D
designator U?  Supplier Part Number 1: 568-1027-5-ND
Supplier 1: Digi-Key
footprint TSSOP8 (Shrink Small Outline; 8 Leads; Body Width 4.4 mm; Pitch 0.65 mm)
pins: 1 EN, 2 SCL OUT, 3 SCL IN, 4 GND, 5 READY, 6 SDA IN, 7 SDA OUT, 8 VCC

## PCA9515
designator U?  Supplier Part Number 1: 595-PCA9515ADR
Supplier 1: Mouser
footprint SOIC8 (8-Pin Small Outline Integrated Circuit 1.27 mm Pitch, IPC Low Density)
pins: 2 SCL0, 3 SDA0, 4 GND, 5 EN, 6 SDA1, 7 SCL1, 8 VCC

## PCA9536D
designator U?
IC I/O EXPANDER I2C 4B 8SOIC
footprint SOIC8 (8-Pin Small Outline Integrated Circuit 1.27 mm Pitch, IPC Low Density)
pins: 1 IO0, 2 IO1, 3 IO2, 4 VSS, 5 IO3, 6 SCL, 7 SDA, 8 VDD

## PCA9544
designator U?  Supplier Part Number 1: 568-1860-1-ND
IC I2C MUX 4CH 20-TSSOP; Supplier 1: Digi-Key
footprint SOIC20 (SOIC, 20-Leads, Body 13.0x7.6mm (max), Pitch 1.27mm, IPC Low Density)
pins: 1 A0, 2 A1, 3 A2, 4 ~{INT0}, 5 SD0, 6 SC0, 7 ~{INT1}, 8 SD1, 9 SC1, 10 VSS, 11 ~{INT2}, 12 SD2, 13 SC2, 14 ~{INT3}, 15 SD3, 16 SC3, 17 ~{INT}, 18 SCL, 19 SDA, 20 VDD

## PCA9554
designator U?
IC I/O EXPANDER I2C 8B 16SOIC; Supplier 1: Digi-Key
footprint SOIC16 (SOIC, 16-Leads, Body 10.0x4.0mm (max), Pitch 1.27mm, IPC Low Density)
pins: 1 A0, 2 A1, 3 A2, 4 P0, 5 P1, 6 P2, 7 P3, 8 GND, 9 P4, 10 P5, 11 P6, 12 P7, 13 ~{INT}, 14 SCL, 15 SDA, 16 VCC

## PCA9557
designator U?
Supplier 1: Digi-Key
footprint TSSOP16 (Shrink Small Outline; 16 Leads; Body Width 4.4 mm; Pitch 0.65 mm)
pins: 1 SCL, 2 SDA, 3 A0, 4 A1, 5 A2, 6 IO0, 7 IO1, 8 VSS, 9 IO2, 10 IO3, 11 IO4, 12 IO5, 13 IO6, 14 IO7, 15 ~{RST}, 16 VDD

## PCM510xA
designator U?, comment PCM5100A  Supplier Part Number 1: 296-36705-1-ND
112/106/100 dB Audio Stereo DAC / with PLL and 32-bit, 384 kHz PCM Interface; Supplier 1: Digi-Key
footprint SOP65P640X120-20N
pins: 1 CPVDD (power), 2 CAPP, 3 CPGND, 4 CAPM, 5 VNEG, 6 OUTL (out), 7 OUTR (out), 8 AVDD (power), 9 AGND, 10 DEMP, 11 FLT, 12 SCK (in), 13 BCK (in), 14 DIN (in), 15 LRCK (in), 16 FMT, 17 XSMT, 18 LDOO (power), 19 DGND (power), 20 DVDD (power)
text: PCM; OUT; Control; Charge Pump; Power

## PEC11
designator P?
pins: 1 A, 2 COM, 3 B

## Photodiode_1
designator D?, comment D?
Hamamatsu
pins: 1, 2, 3

## Photodiode_2
designator D?, comment D?
Hamamatsu
pins: 1, 3

## PIC12F1822
designator U?  Supplier Part Number 1: PIC12F1822-I/SN-ND
Supplier 1: Digi-Key
pins: 1 VDD, 2 RA5/OSC1, 3 RA4/AN3/OSC2, 4 RA3/~{SS}/~{MCLR}, 5 RA2/AN2/SDA, 6 RA1/AN1/SCL/ICDCLK, 7 RA0/AN0/ICDDAT, 8 VSS

## PIC16F1827
designator U?
pins: 1 RA2, 2 RA3, 3 RA4, 4 RA5/~{MCLR}, 5 VSS, 6 VSS, 7 RB0, 8 RB1, 9 RB2, 10 RB3, 11 RB4, 12 RB5, 13 RB6, 14 RB7, 15 VDD, 16 VDD, 17 RA6, 18 RA7, 19 RA0, 20 RA1

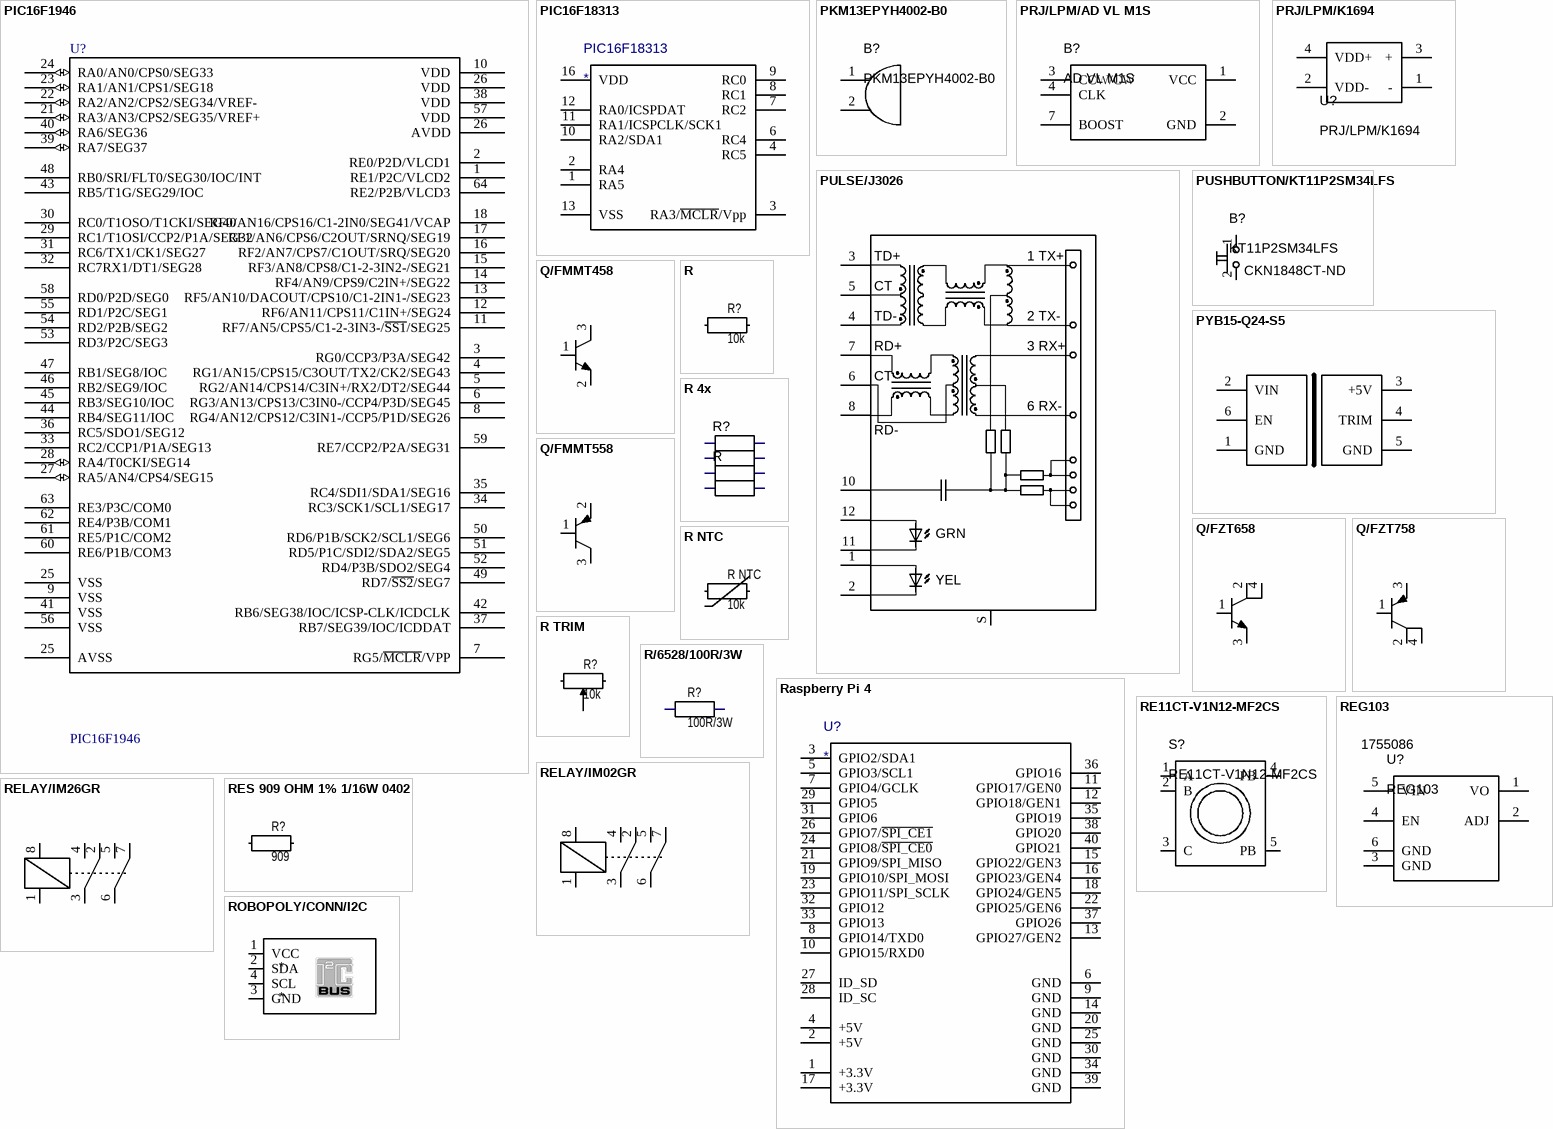
[diagram p16: symbols PIC16F1946 to ROBOPOLY/CONN/I2C]

## PIC16F1946
designator U?
Flash-Based, 8-Bit CMOS Microcontroller with LCD Driver and nanoWatt Technology, 8K (x14-Bit words) Program Memory, 592 Bytes Data Memory, 53 I/O pins, 64-Pin TQFP, Standard VDD Range, Industrial Temperature; Published: 29-Jan-2009; DatasheetVersion: revF, May-2007; PackageVersion: revAW, Oct-2008; PackageReference: TQFP-PT64; Publisher: Altium Limited; PackageDescription: 64-Lead Thin Plastic Quad Flat Pack (PT) - 10x10x1mm Body, 2.00mm [TQFP]; Code_JEDEC: MS-026; ComponentLink1Description: Manufacturer Link; ComponentLink1URL: http://www.microchip.com; ComponentLink2Description: Datasheet; ComponentLink2URL: http://ww1.microchip.com/downloads/en/DeviceDoc/41250F.pdf; ComponentLink3Description: Packaging Specification; ComponentLink3URL: http://ww1.microchip.com/downloads/en/PackagingSpec/00049AW.pdf
footprint TQFP-PT64_N (Thin QFP, 64-Leads, Body 10x10mm, Pitch 0.5mm, IPC Medium Density)
footprint TQFP-PT64_L (Thin QFP, 64-Leads, Body 10x10mm, Pitch 0.5mm, IPC High Density)
footprint TQFP-PT64_M (Thin QFP, 64-Leads, Body 10x10mm, Pitch 0.5mm, IPC Low Density)
pins: 1 RE1/P2C/VLCD2, 2 RE0/P2D/VLCD1, 3 RG0/CCP3/P3A/SEG42, 4 RG1/AN15/CPS15/C3OUT/TX2/CK2/SEG43, 5 RG2/AN14/CPS14/C3IN+/RX2/DT2/SEG44, 6 RG3/AN13/CPS13/C3IN0-/CCP4/P3D/SEG45, 7 RG5/~{MCLR}/VPP, 8 RG4/AN12/CPS12/C3IN1-/CCP5/P1D/SEG26, 9 VSS (power), 10 VDD (power), 11 RF7/AN5/CPS5/C1-2-3IN3-/~{SS1}/SEG25, 12 RF6/AN11/CPS11/C1IN+/SEG24, 13 RF5/AN10/DACOUT/CPS10/C1-2IN1-/SEG23, 14 RF4/AN9/CPS9/C2IN+/SEG22, 15 RF3/AN8/CPS8/C1-2-3IN2-/SEG21, 16 RF2/AN7/CPS7/C1OUT/SRQ/SEG20, 17 RF1/AN6/CPS6/C2OUT/SRNQ/SEG19, 18 RF0/AN16/CPS16/C1-2IN0/SEG41/VCAP, 21 RA3/AN3/CPS2/SEG35/VREF+ (io), 22 RA2/AN2/CPS2/SEG34/VREF- (io), 23 RA1/AN1/CPS1/SEG18 (io), 24 RA0/AN0/CPS0/SEG33 (io), 25 VSS (power), 25 AVSS (power), 26 VDD (power), 26 AVDD (power), 27 RA5/AN4/CPS4/SEG15 (io), 28 RA4/T0CKI/SEG14 (io), 29 RC1/T1OSI/CCP2/P1A/SEG32, 30 RC0/T1OSO/T1CKI/SEG40, 31 RC6/TX1/CK1/SEG27, 32 RC7RX1/DT1/SEG28, 33 RC2/CCP1/P1A/SEG13, 34 RC3/SCK1/SCL1/SEG17, 35 RC4/SDI1/SDA1/SEG16, 36 RC5/SDO1/SEG12, 37 RB7/SEG39/IOC/ICDDAT, 38 VDD (power), 39 RA7/SEG37 (io), 40 RA6/SEG36 (io), 41 VSS (power), 42 RB6/SEG38/IOC/ICSP-CLK/ICDCLK, 43 RB5/T1G/SEG29/IOC, 44 RB4/SEG11/IOC, 45 RB3/SEG10/IOC, 46 RB2/SEG9/IOC, 47 RB1/SEG8/IOC, 48 RB0/SRI/FLT0/SEG30/IOC/INT, 49 RD7/~{SS2}/SEG7, 50 RD6/P1B/SCK2/SCL1/SEG6, 51 RD5/P1C/SDI2/SDA2/SEG5, 52 RD4/P3B/SDO2/SEG4, 53 RD3/P2C/SEG3, 54 RD2/P2B/SEG2, 55 RD1/P2C/SEG1, 56 VSS (power), 57 VDD (power), 58 RD0/P2D/SEG0, 59 RE7/CCP2/P2A/SEG31, 60 RE6/P1B/COM3, 61 RE5/P1C/COM2, 62 RE4/P3B/COM1, 63 RE3/P3C/COM0, 64 RE2/P2B/VLCD3

## PIC16F18313
designator PIC16F18313
pins: 1 RA5, 2 RA4, 3 RA3/~{MCLR}/Vpp, 4 RC5, 6 RC4, 7 RC2, 8 RC1, 9 RC0, 10 RA2/SDA1, 11 RA1/ICSPCLK/SCK1, 12 RA0/ICSPDAT, 13 VSS, 16 VDD

## PKM13EPYH4002-B0
designator B?
footprint PKM13EPYH4002-B0
pins: 1, 2

## PRJ/LPM/AD VL M1S
designator B?, comment AD VL M1S
footprint PRJ/LPM/AD VL M1S
pins: 1 VCC, 2 GND, 3 CCW/CW, 4 CLK, 7 BOOST

## PRJ/LPM/K1694
designator U?
footprint PRJ/LPM/K1694
pins: 1 -, 2 VDD-, 3 +, 4 VDD+

## PULSE/J3026
designator P?  Supplier Part Number 2: 553-1929-1-ND
Supplier 1: Digi-Key; Supplier 2: Digi-Key
footprint J3026G01DNLT (CONN MAGJACK 1PORT 100 BASE-TX)
pins: 1 AY, 2 CY, 3 TD+, 4 TD-, 5 CT, 6 CT, 7 RD+, 8 RD-, 10, 11 CG, 12 AG, S
text: 1 TX+; 2 TX-; 3 RX+; 6 RX-; GRN; YEL

## PUSHBUTTON/KT11P2SM34LFS
designator B?, comment KT11P2SM34LFS  Supplier Part Number 1: CKN1848CT-ND
SWITCH TACT 2.36MM SILVR G-WING; Supplier 1: Digi-Key
footprint PUSHBUTTON/KT11P2SM34LFS
pins: 1, 2

## PYB15-Q24-S5
designator U?
Supplier 1: Digi-Key
pins: 1 GND, 2 VIN, 3 +5V, 4 TRIM, 5 GND, 6 EN

## Q/FMMT458
designator Q?, comment FMMT458
TRANS HP NPN 400V 225MA SOT23-3
footprint SOT23-3 (SOT23, 3-Leads, Body 3.0x2.6mm (max), Pitch 0.95mm, IPC Low Density)
pins: 1 VCC, 2 VCC, 3 VCC

## Q/FMMT558
designator Q?, comment FMMT558
TRANS PNP 400V 150MA HV SOT23-3
footprint SOT23-3 (SOT23, 3-Leads, Body 3.0x2.6mm (max), Pitch 0.95mm, IPC Low Density)
pins: 1 B, 2 E, 3 C

## Q/FZT658
designator Q?, comment FZT658
TRANS NPN HV 400V 500MA SOT-223
footprint SOT223 (Footprint not found)
pins: 1 E, 2 C, 3 E, 4 C

## Q/FZT758
designator Q?, comment FZT758
TRANS PNP -400V -500MA SOT-223
footprint SOT2223 (Footprint not found)
pins: 1 B, 2 C, 3 E, 4 C

## R
designator R?, comment 10k
Chip Resistor SMD
simulation model RES (Default semiconductor resistor)
footprint SM/R0805 (Chip Resistor, Body 2.0x1.3mm, IPC Low Density)
pins: 1, 2

## R 4x
designator R?, comment R
Value: R
pins: 1 A, 2 A, 3 B, 4 B, 5 C, 6 C, 7 D, 8 D

## R NTC
designator R NTC, comment 10k
Chip Resistor SMD
simulation model RES (Default semiconductor resistor)
footprint SM/R0805 (Chip Resistor, Body 2.0x1.3mm, IPC Low Density)
pins: 1, 2

## R TRIM
designator R?, comment 10k
Chip Resistor SMD
simulation model RES (Default semiconductor resistor)
footprint SM/R0805 (Chip Resistor, Body 2.0x1.3mm, IPC Low Density)
pins: 1, 2, 3

## R/6528/100R/3W
designator R?, comment 100R/3W
Resistor 100R 3W 1% 6528; Size: 6528
simulation model RES (Default semiconductor resistor)
footprint SM/6528
pins: 1, 2

## Raspberry Pi 4
designator U?
pins: 1 +3.3V, 2 +5V, 3 GPIO2/SDA1, 4 +5V, 5 GPIO3/SCL1, 6 GND, 7 GPIO4/GCLK, 8 GPIO14/TXD0, 9 GND, 10 GPIO15/RXD0, 11 GPIO17/GEN0, 12 GPIO18/GEN1, 13 GPIO27/GEN2, 14 GND, 15 GPIO22/GEN3, 16 GPIO23/GEN4, 17 +3.3V, 18 GPIO24/GEN5, 19 GPIO10/SPI_MOSI, 20 GND, 21 GPIO9/SPI_MISO, 22 GPIO25/GEN6, 23 GPIO11/SPI_SCLK, 24 GPIO8/~{SPI_CE0}, 25 GND, 26 GPIO7/~{SPI_CE1}, 27 ID_SD, 28 ID_SC, 29 GPIO5, 30 GND, 31 GPIO6, 32 GPIO12, 33 GPIO13, 34 GND, 35 GPIO19, 36 GPIO16, 37 GPIO26, 38 GPIO20, 39 GND, 40 GPIO21

## RE11CT-V1N12-MF2CS
designator S?
pins: 1 A, 2 B, 3 C, 4 PB, 5 PB

## REG103
designator U?  Supplier Part Number 1: 1755086
Supplier 1: Farnell
footprint TO263-5 (D2PAK, 6-Pads, Body 9.6x10.7mm (max), IPC Medium Density)
pins: 1 VO, 2 ADJ, 3 GND, 4 EN, 5 VIN, 6 GND

## RELAY/IM02GR
designator RL?, comment IM02GR
RELAY TELECOM DPDT 2A 4.5VDC; Supplier 1: Digi-Key
footprint SM/0805 (Chip Resistor, Body 2.0x1.3mm, IPC Low Density)
footprint TE_1462037-9
pins: 1 coil, 2, 3, 4, 5, 6, 7, 8 coil

## RELAY/IM26GR
designator RL?, comment IM26GR
RELAY TELECOM DPDT 2A 12V; Supplier 1: Digi-Key
footprint SM/0805 (Chip Resistor, Body 2.0x1.3mm, IPC Low Density)
pins: 1 coil, 2, 3, 4, 5, 6, 7, 8 coil

## RES 909 OHM 1% 1/16W 0402
designator R?, comment 909
909 Ohms ±1% 0.063W, 1/16W Chip Resistor 0402 (1005 Metric) Moisture Resistant Thick Film; Supplier 1: Digi-Key; Supplier Part Number 1: YAG3256CT-ND
simulation model RES (Default semiconductor resistor)
footprint SM/R0402 (Chip Resistor, 2-Leads, Body 1.00x0.50mm, IPC Medium Density)
pins: 1, 2

## ROBOPOLY/CONN/I2C
designator *
pins: 1 VCC, 2 SDA, 3 GND, 4 SCL

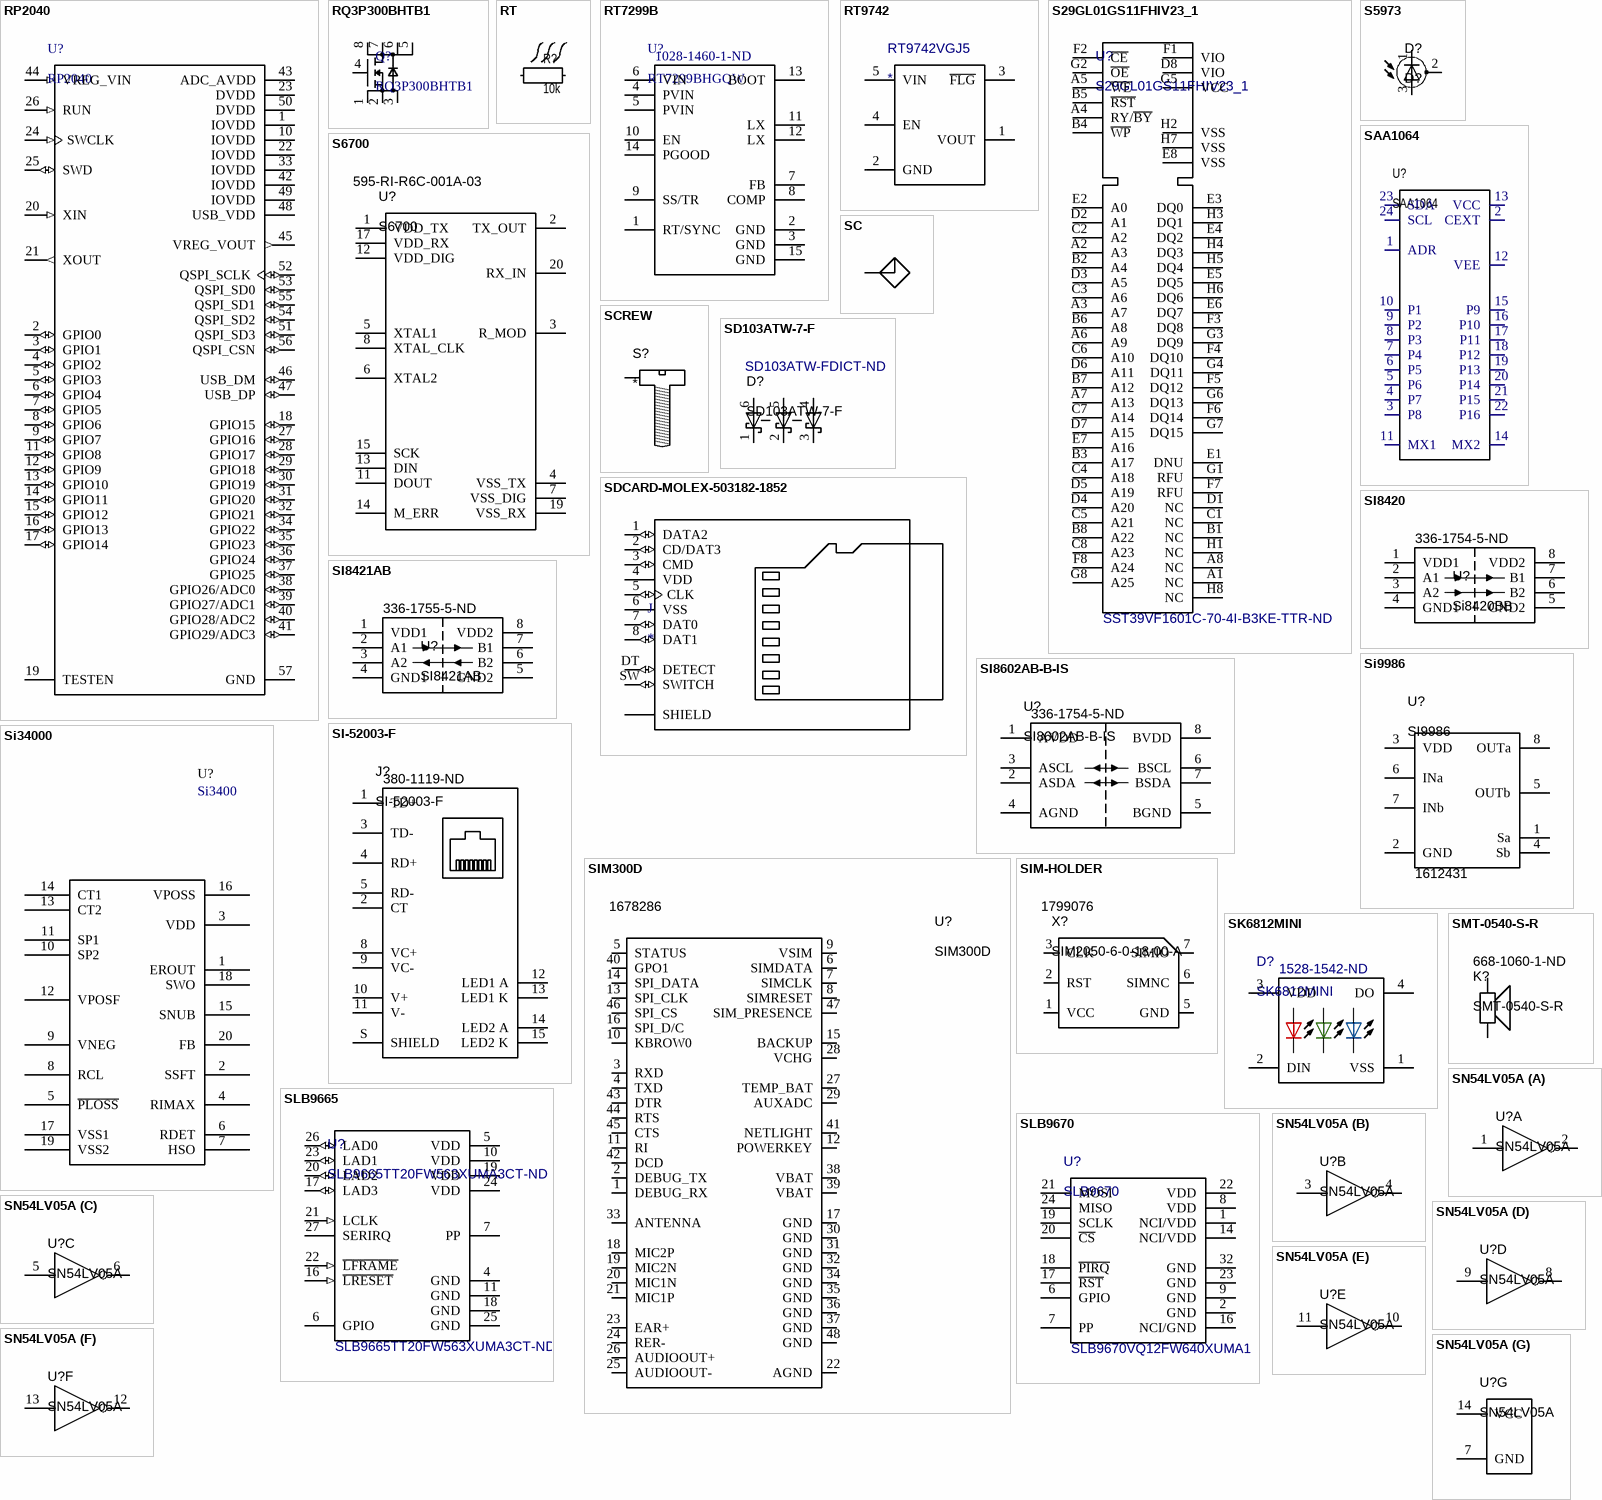
[diagram p17: symbols RP2040 to SN54LV05A]

## RP2040
designator U?
RP2040 chip for Raspberry Pi Pico - ARMÂ® CortexÂ®-M0+ MCU 32-Bit; SnapEDA_Link: https://www.snapeda.com/parts/RP2040/Raspberry+Pi/view-part/?ref=snap; Value: RP2040; Purchase-URL: https://pricing.snapeda.com/search/part/RP2040/?ref=eda; MP: RP2040; Availability: In Stock; Check_prices: https://www.snapeda.com/parts/RP2040/Raspberry+Pi/view-part/?ref=eda; Package: None; MF: Raspberry Pi; Price: None; Supplier 1: Digi-Key; Supplier Part Number 1: 2648-SC0914(7)CT-ND
footprint QFN40P700X700X90-57N/RP2040
pins: 1 IOVDD (power), 2 GPIO0 (io), 3 GPIO1 (io), 4 GPIO2 (io), 5 GPIO3 (io), 6 GPIO4 (io), 7 GPIO5 (io), 8 GPIO6 (io), 9 GPIO7 (io), 10 IOVDD (power), 11 GPIO8 (io), 12 GPIO9 (io), 13 GPIO10 (io), 14 GPIO11 (io), 15 GPIO12 (io), 16 GPIO13 (io), 17 GPIO14 (io), 18 GPIO15 (io), 19 TESTEN, 20 XIN (in), 21 XOUT (out), 22 IOVDD (power), 23 DVDD (power), 24 SWCLK (in), 25 SWD (io), 26 RUN (in), 27 GPIO16 (io), 28 GPIO17 (io), 29 GPIO18 (io), 30 GPIO19 (io), 31 GPIO20 (io), 32 GPIO21 (io), 33 IOVDD (power), 34 GPIO22 (io), 35 GPIO23 (io), 36 GPIO24 (io), 37 GPIO25 (io), 38 GPIO26/ADC0 (io), 39 GPIO27/ADC1 (io), 40 GPIO28/ADC2 (io), 41 GPIO29/ADC3 (io), 42 IOVDD (power), 43 ADC_AVDD (power), 44 VREG_VIN (in), 45 VREG_VOUT (out), 46 USB_DM (io), 47 USB_DP (io), 48 USB_VDD (power), 49 IOVDD (power), 50 DVDD (power), 51 QSPI_SD3 (io), 52 QSPI_SCLK (io), 53 QSPI_SD0 (io), 54 QSPI_SD2 (io), 55 QSPI_SD1 (io), 56 QSPI_CSN (io), 57 GND (power)

## RQ3P300BHTB1
designator Q?
N-Channel 100 V 39A (Ta) 2W (Ta) Surface Mount 8-HSMT (3.2x3); Supplier 1: Digi-Key; Supplier Part Number 1: 846-RQ3P300BHTB1CT-ND
footprint RQ3P300BHTB1 (8-Leads, Body 3.15x3.05mm, Pitch 0.65mm, Thermal Pad 3.00x2.00mm, Manufacturer Guidelines)
pins: 1 S, 2 S, 3 S, 4 G, 5 D, 6 D, 7 D, 8 D

## RT
designator R?, comment 10k
Chip Resistor SMD; Supplier 1: Digi-Key; Supplier Part Number 1: RW5S0FA10R0JE-ND
simulation model RES (Default semiconductor resistor)
footprint SM/R0805 (Chip Resistor, Body 2.0x1.3mm, IPC Low Density)
footprint RW5S0FA
pins: 1, 2

## RT7299B
designator U?, comment RT7299BHGQW  Supplier Part Number 1: 1028-1460-1-ND
Buck Switching Regulator IC Positive Adjustable 0.6V 1 Output 8A 14-WFQFN Exposed Pad; Supplier 1: Digi-Key
footprint QFN50P250X250X80-15N
pins: 1 RT/SYNC, 2 GND, 3 GND, 4 PVIN, 5 PVIN, 6 VIN, 7 FB, 8 COMP, 9 SS/TR, 10 EN, 11 LX, 12 LX, 13 BOOT, 14 PGOOD, 15 GND

## RT9742
designator RT9742VGJ5
footprint SOT23-5 (SOT23, 5-Leads, Body 3.0x2.6mm (max), Pitch 0.95mm, IPC Low Density)
pins: 1 VOUT, 2 GND, 3 ~{FLG}, 4 EN, 5 VIN

## S29GL01GS11FHIV23_1
designator U?  Supplier Part Number 1: SST39VF1601C-70-4I-B3KE-TTR-ND
IC FLASH 1GBIT PARALLEL 64FBGA / FLASH - NOR Memory IC 1Gb (64M x 16) Parallel 110 ns 64-FBGA (13x11); Supplier 1: Digi-Key
footprint BGA48C75P8X6_800X600X120N
pins: A1 NC, A2 A3, A3 A7, A4 RY/~{BY}, A5 ~{WE}, A6 A9, A7 A13, A8 NC, B1 NC, B2 A4, B3 A17, B4 ~{WP}, B5 ~{RST}, B6 A8, B7 A12, B8 A22, C1 NC, C2 A2, C3 A6, C4 A18, C5 A21, C6 A10, C7 A14, C8 A23, D1 NC, D2 A1, D3 A5, D4 A20, D5 A19, D6 A11, D7 A15, D8 VIO, E1 DNU, E2 A0, E3 DQ0, E4 DQ2, E5 DQ5, E6 DQ7, E7 A16, E8 VSS, F1 VIO, F2 ~{CE}, F3 DQ8, F4 DQ10, F5 DQ12, F6 DQ14, F7 RFU, F8 A24, G1 RFU, G2 ~{OE}, G3 DQ9, G4 DQ11, G5 VCC, G6 DQ13, G7 DQ15, G8 A25, H1 NC, H2 VSS, H3 DQ1, H4 DQ3, H5 DQ4, H6 DQ6, H7 VSS, H8 NC

## S5973
designator D?, comment D?
Hamamatsu
pins: 1, 2, 3

## S6700
designator U?  Supplier Part Number 1: 595-RI-R6C-001A-03
Supplier 1: Mouser
footprint TSSOP20 (TSOP, 20-Leads, Body 6.6x4.5mm (max), Pitch 0.65mm, IPC Low Density)
pins: 1 VDD_TX, 2 TX_OUT, 3 R_MOD, 4 VSS_TX, 5 XTAL1, 6 XTAL2, 7 VSS_DIG, 8 XTAL_CLK, 11 DOUT, 12 VDD_DIG, 13 DIN, 14 M_ERR, 15 SCK, 17 VDD_RX, 19 VSS_RX, 20 RX_IN

## SAA1064
designator U?
4-digit LED-deiver with i2c-bus interface
pins: 1 ADR, 2 CEXT, 3 P8, 4 P7, 5 P6, 6 P5, 7 P4, 8 P3, 9 P2, 10 P1, 11 MX1, 12 VEE, 13 VCC, 14 MX2, 15 P9, 16 P10, 17 P11, 18 P12, 19 P13, 20 P14, 21 P15, 22 P16, 23 SDA, 24 SCL

## SC
designator SC?, comment S1721  (value not drawn)
footprint HARWIN/SHIELDCLIP/S1721
pins: 1 SC

## SCREW
designator S?
pins: 1

## SD103ATW-7-F
designator D?  Supplier Part Number 1: SD103ATW-FDICT-ND
DIODE ARRAY SCHOTTKY 40V SOT363 / Diode Array 3 Independent Schottky 40 V 175mA Surface Mount 6-TSSOP, SC-88, SOT-363; Supplier 1: Digi-Key
footprint SC70-6 (SOT363, 6-Leads, Body 2x1.3mm, Pitch 0.65mm, Lead Span 2.1mm, IPC Low Density)
pins: 1 K, 2 K, 3 K, 4 A, 5 A, 6 A

## SDCARD-MOLEX-503182-1852
designator J
10 _8 + 2_ Position Card Connector microSDâ„¢ Surface Mount, Right Angle Gold; MF: Molex; MP: 5031821852; Digi-Key_Part_Number: WM12834CT-ND; Digi-Key_Purchase_URL: https://www.digikey.com.tr/product-detail/en/molex/5031821852/WM12834CT-ND/5823232?utm_source=snapeda&utm_medium=aggregator&utm_campaign=symbol; SnapEDA_Link: https://www.snapeda.com/parts/5031821852/Molex/view-part/46835/?ref=snap; Value: *; Package: None
footprint MOLEX_503182-1852
footprint SDCARD-MOLEX_503182-1852
pins: 1 DATA2 (io), 2 CD/DAT3 (io), 3 CMD (io), 4 VDD (power), 5 CLK (io), 6 VSS (power), 7 DAT0 (io), 8 DAT1 (io), DT DETECT (io), P1 SHIELD, P2 SHIELD, P3 SHIELD, P4 SHIELD, P5 SHIELD, SW SWITCH (io)

## SI8420
designator U?, comment Si8420BB  Supplier Part Number 1: 336-1754-5-ND
Low-power dual channel digital isolator; Supplier 1: Digi-Key
pins: 1 VDD1, 2 A1, 3 A2, 4 GND1, 5 GND2, 6 B2, 7 B1, 8 VDD2

## SI8421AB
designator U?  Supplier Part Number 1: 336-1755-5-ND
Low-power dual channel digital isolator; Supplier 1: Digi-Key
footprint SOIC8 (8-Pin Small Outline Integrated Circuit 1.27 mm Pitch, IPC Low Density)
pins: 1 VDD1, 2 A1, 3 A2, 4 GND1, 5 GND2, 6 B2, 7 B1, 8 VDD2

## SI8602AB-B-IS
designator U?  Supplier Part Number 1: 336-1754-5-ND
Low-power dual channel digital isolator; Supplier 1: Digi-Key
footprint SOIC8 (8-Pin Small Outline Integrated Circuit 1.27 mm Pitch, IPC Low Density)
pins: 1 AVDD, 2 ASDA, 3 ASCL, 4 AGND, 5 BGND, 6 BSCL, 7 BSDA, 8 BVDD

## Si9986
designator U?, comment SI9986  Supplier Part Number 1: 1612431
Supplier 1: Farnell
footprint SOIC8 (8-Pin Small Outline Integrated Circuit 1.27 mm Pitch, IPC Low Density)
pins: 1 Sa, 2 GND, 3 VDD, 4 Sb, 5 OUTb, 6 INa, 7 INb, 8 OUTa

## Si34000
designator U?, comment Si3400
pins: 1 EROUT, 2 SSFT, 3 VDD, 4 RIMAX, 5 ~{PLOSS}, 6 RDET, 7 HSO, 8 RCL, 9 VNEG, 10 SP2, 11 SP1, 12 VPOSF, 13 CT2, 14 CT1, 15 SNUB, 16 VPOSS, 17 VSS1, 18 SWO, 19 VSS2, 20 FB

## SI-52003-F
designator J?  Supplier Part Number 1: 380-1119-ND
Supplier 1: Digi-Key
pins: 1 TD+, 2 CT, 3 TD-, 4 RD+, 5 RD-, 8 VC+, 9 VC-, 10 V+, 11 V-, 12 LED1 A, 13 LED1 K, 14 LED2 A, 15 LED2 K, S SHIELD

## SIM300D
designator U?  Supplier Part Number 1: 1678286
Supplier 1: Farnell
pins: 1 DEBUG_RX, 2 DEBUG_TX, 3 RXD, 4 TXD, 5 STATUS, 6 SIMDATA, 7 SIMCLK, 8 SIMRESET, 9 VSIM, 10 KBROW0, 11 RI, 12 POWERKEY, 13 SPI_CLK, 14 SPI_DATA, 15 BACKUP, 16 SPI_D/C, 17 GND, 18 MIC2P, 19 MIC2N, 20 MIC1N, 21 MIC1P, 22 AGND, 23 EAR+, 24 RER-, 25 AUDIOOUT-, 26 AUDIOOUT+, 27 TEMP_BAT, 28 VCHG, 29 AUXADC, 30 GND, 31 GND, 32 GND, 33 ANTENNA, 34 GND, 35 GND, 36 GND, 37 GND, 38 VBAT, 39 VBAT, 40 GPO1, 41 NETLIGHT, 42 DCD, 43 DTR, 44 RTS, 45 CTS, 46 SPI_CS, 47 SIM_PRESENCE, 48 GND

## SIM-HOLDER
designator X?, comment SIM2050-6-0-18-00-A  Supplier Part Number 1: 1799076
Supplier 1: Farnell
pins: 1 VCC, 2 RST, 3 CLK, 5 GND, 6 SIMNC, 7 SIMIO

## SK6812MINI
designator D?  Supplier Part Number 1: 1528-1542-ND
Addressable Lighting series 10 LED Discrete Serial (Shift Register) Red, Green, Blue (RGB) 3.50mm L x 3.50mm W; Supplier 1: Digi-Key
pins: 1 VSS, 2 DIN, 3 VDD, 4 DO

## SLB9665
designator U?, comment SLB9665TT20FW563XUMA3CT-ND
OPTIGA™ TPM 2.0 / SECURITY IC'S/AUTHENTICATION IC' / Trusted Platform Module; Supplier 1: Digi-Key; Supplier Part Number 1: SLB9665TT20FW563XUMA3CT-ND
footprint SOP65P640X120-28N
pins: 4 GND, 5 VDD, 6 GPIO, 7 PP, 10 VDD, 11 GND, 16 ~{LRESET} (in), 17 LAD3 (io), 18 GND, 19 VDD, 20 LAD2 (io), 21 LCLK (in), 22 ~{LFRAME} (in), 23 LAD1 (io), 24 VDD, 25 GND, 26 LAD0 (io), 27 SERIRQ

## SLB9670
designator U?  Supplier Part Number 1: SLB9670VQ12FW640XUMA1
OPTIGA™ TPM / SECURITY IC'S/AUTHENTICATION IC' / Trusted Platform Module; Supplier 1: Arrow Electronics
footprint QFN50P500X500X90-33N-V
pins: 1 NCI/VDD, 2 GND, 6 GPIO, 7 PP, 8 VDD, 9 GND, 14 NCI/VDD, 16 NCI/GND, 17 ~{RST}, 18 ~{PIRQ}, 19 SCLK, 20 ~{CS}, 21 MOSI, 22 VDD, 23 GND, 24 MISO, 32 GND

## SMT-0540-S-R
designator K?  Supplier Part Number 1: 668-1060-1-ND
Supplier 1: Digi-Key
pins: 1, 2

## SN54LV05A
designator U?
HEX INVERTERS
footprint SOIC14 (14-Pin Small Outline Integrated Circuit 1.27 mm Pitch, IPC Low Density)
part A pins: 1 A, 2 Y
part B pins: 3 A, 4 Y
part C pins: 5 A, 6 Y
part D pins: 8 Y, 9 A
part E pins: 10 Y, 11 A
part F pins: 12 Y, 13 A
part G pins: 7 GND, 14 VCC

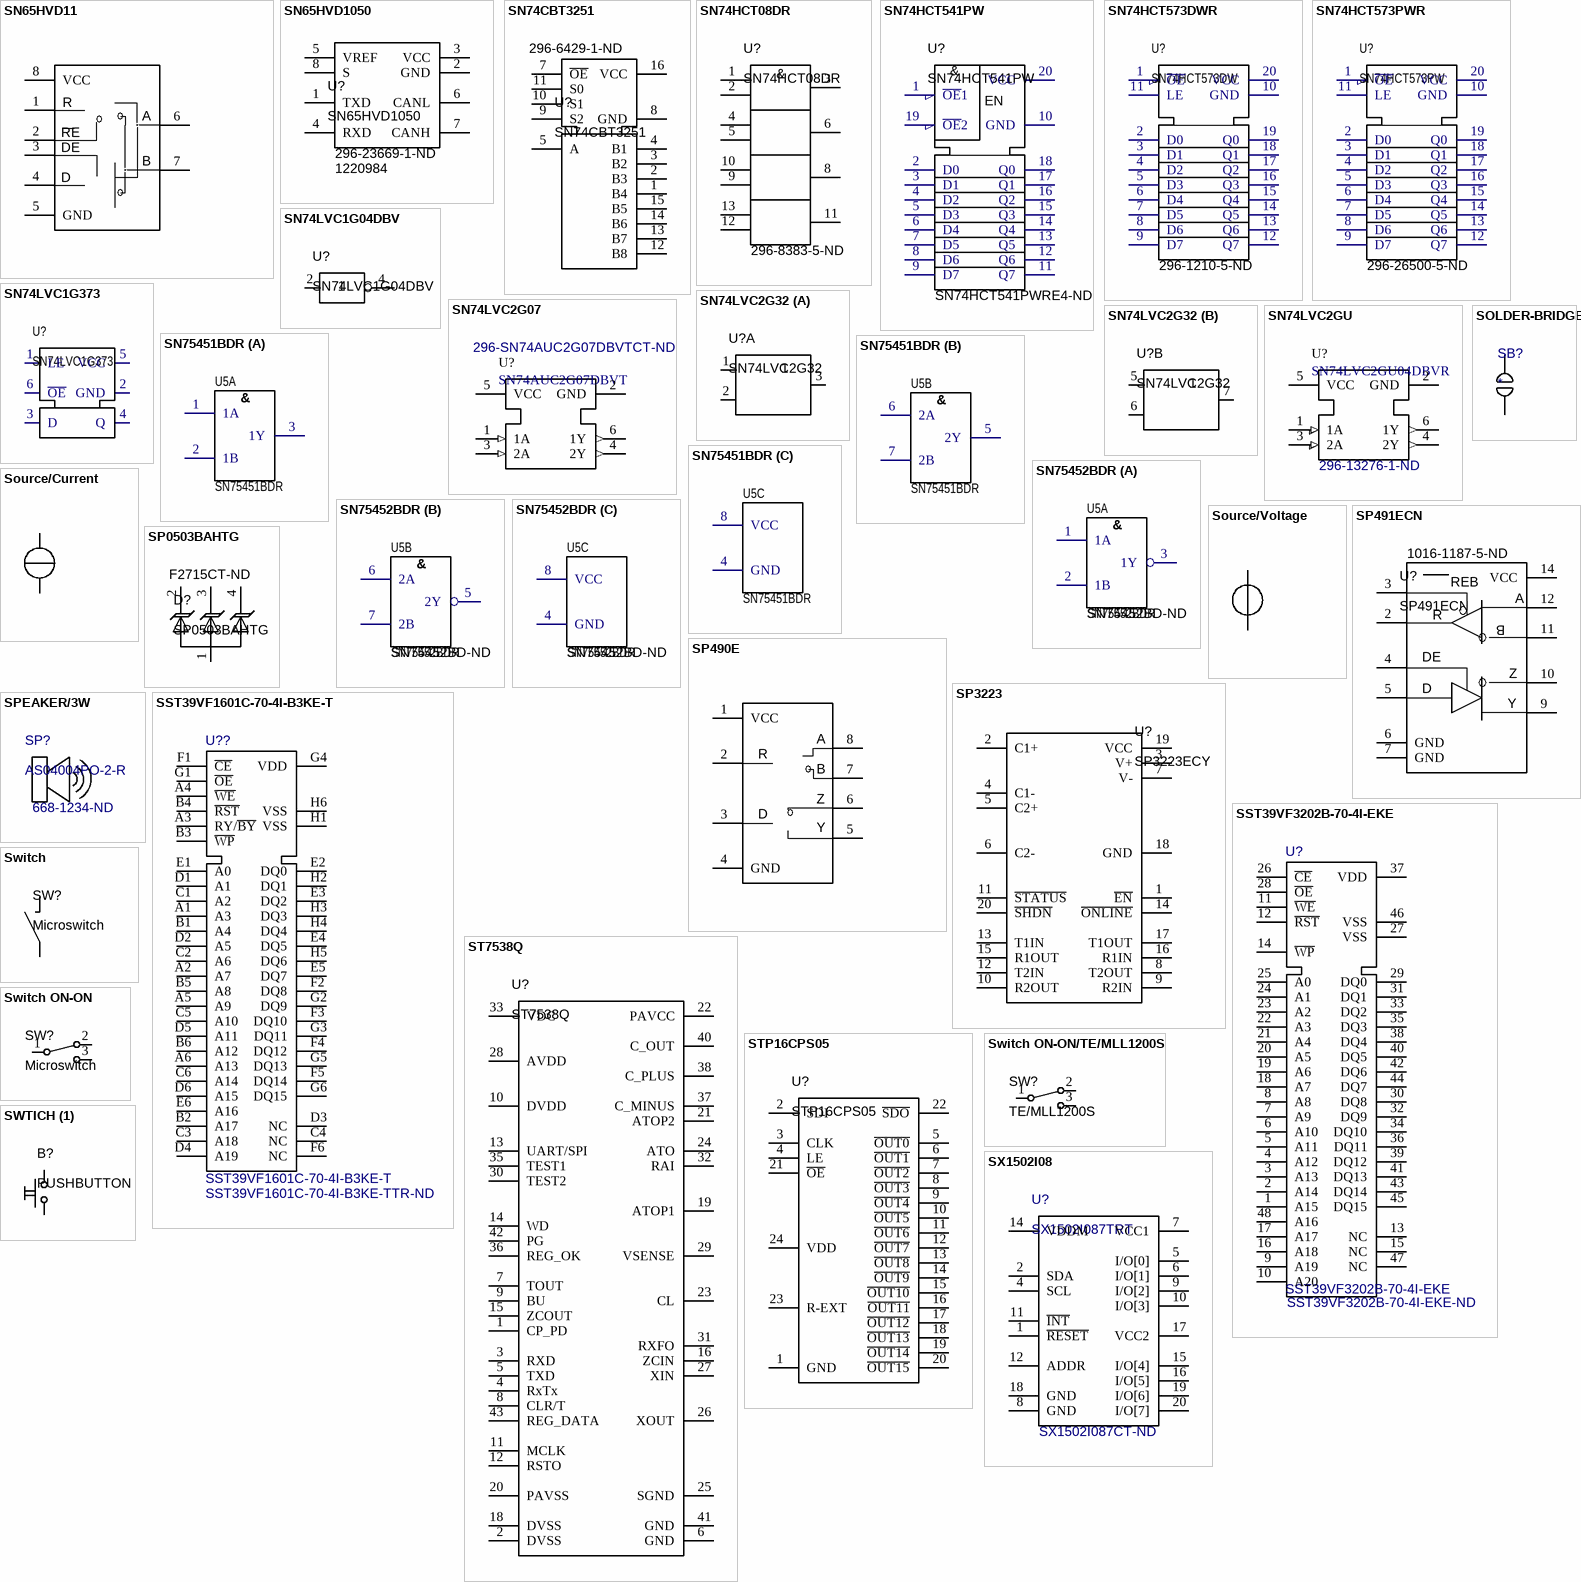
[diagram p18: symbols SN65HVD11 to SX1502I08]

## SN65HVD11
designator U?
IC DIFF BUS TXCVR 8-SOIC; Supplier 1: Digi-Key
footprint SOIC8 (8-Pin Small Outline Integrated Circuit 1.27 mm Pitch, IPC Low Density)
pins: 1 R, 2 ~{RE}, 3 DE, 4 D, 5 GND, 6 A, 7 B, 8 VCC
text: RE

## SN65HVD1050
designator U?  Supplier Part Number 1: 1220984  Supplier Part Number 2: 296-23669-1-ND
CAN TRANSCIVER; Supplier 1: Farnell; Supplier 2: Digi-Key
footprint SOIC8 (8-Pin Small Outline Integrated Circuit 1.27 mm Pitch, IPC Low Density)
pins: 1 TXD, 2 GND, 3 VCC, 4 RXD, 5 VREF, 6 CANL, 7 CANH, 8 S

## SN74CBT3251
designator U?  Supplier Part Number 1: 296-6429-1-ND
Supplier 1: Digi-Key
pins: 1 B4, 2 B3, 3 B2, 4 B1, 5 A, 7 ~{OE}, 8 GND, 9 S2, 10 S1, 11 S0, 12 B8, 13 B7, 14 B6, 15 B5, 16 VCC

## SN74HCT08DR
designator U?  Supplier Part Number 2: 296-8383-5-ND
Supplier 1: Farnell; Supplier 2: Digi-Key; Supplier Part Number 1: 9591788
footprint SOIC14 (14-Pin Small Outline Integrated Circuit 1.27 mm Pitch, IPC Low Density)
pins: 1 A0, 2 B1, 3 Q1, 4 A2, 5 B2, 6 Q2, 7 GND (power) hidden to GND, 8 Q3, 9 A3, 10 B3, 11 Q4, 12 A4, 13 B4, 14 VCC (power) hidden to VCC
text: &

## SN74HCT541PW
designator U?  Supplier Part Number 2: SN74HCT541PWRE4-ND
Octal Buffers and Line Drivers With 3-State Outputs; Supplier 1: Farnell; Supplier 2: Digi-Key
footprint PW020 (Shrink Small Outline; 20 Leads; Body Width 4.4 mm; Pitch 0.65 mm)
pins: 1 ~{OE}1, 2 D0, 3 D1, 4 D2, 5 D3, 6 D4, 7 D5, 8 D6, 9 D7, 10 GND, 11 Q7, 12 Q6, 13 Q5, 14 Q4, 15 Q3, 16 Q2, 17 Q1, 18 Q0, 19 ~{OE}2, 20 VCC
text: &; EN

## SN74HCT573DWR
designator U?, comment SN74HCT573DW  Supplier Part Number 1: 296-1210-5-ND
Octal latch with 3-STATE Outputs; Supplier 1: Digi-Key
footprint SOIC14 (14-Pin Small Outline Integrated Circuit 1.27 mm Pitch, IPC Low Density)
pins: 1 ~{OE}, 2 D0, 3 D1, 4 D2, 5 D3, 6 D4, 7 D5, 8 D6, 9 D7, 10 GND, 11 LE, 12 Q7, 13 Q6, 14 Q5, 15 Q4, 16 Q3, 17 Q2, 18 Q1, 19 Q0, 20 VCC